# Altium integrated library ST Microcontroller 8-Bit.IntLib: 1326 symbols (part 28 of 31)
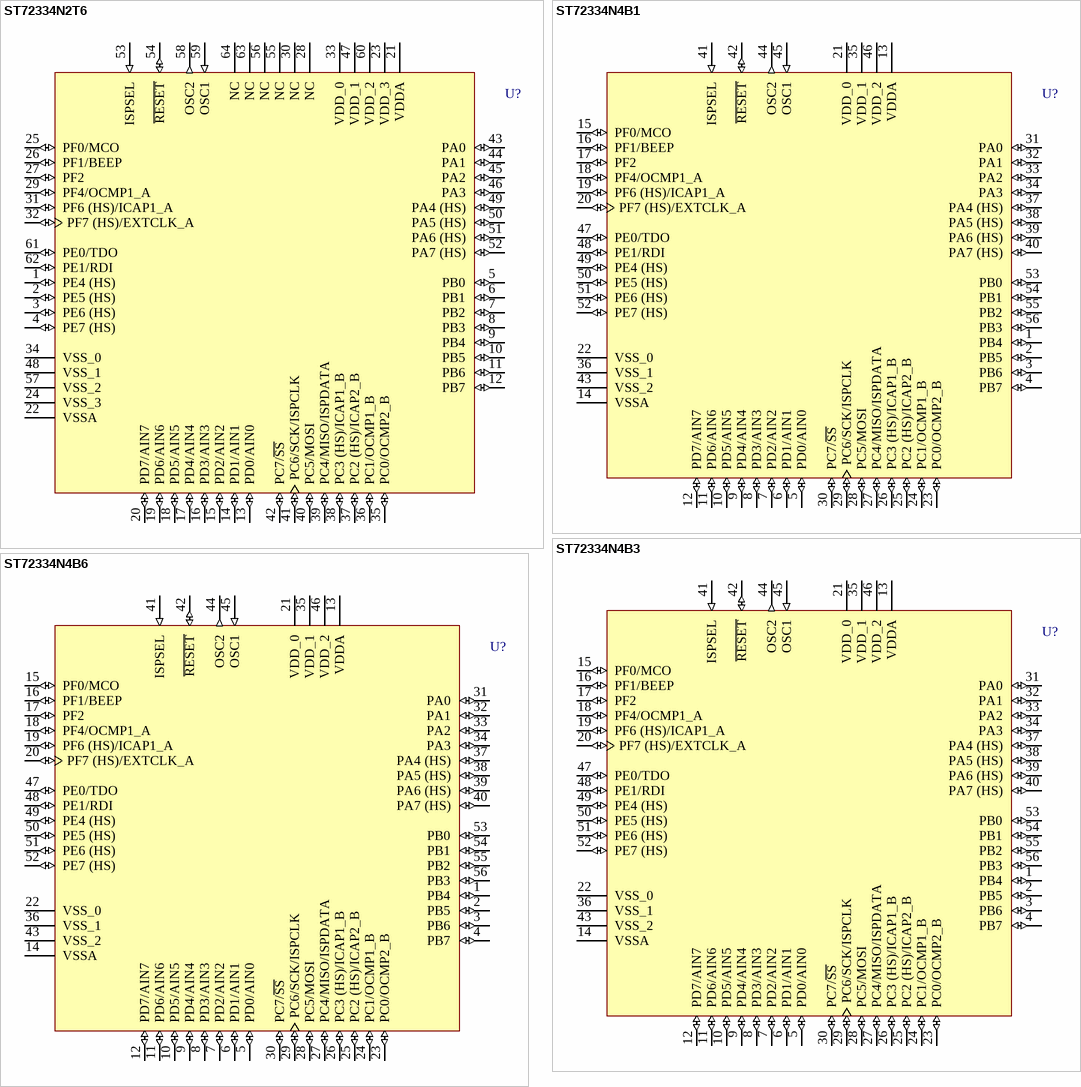
[diagram p194: symbols ST72334N2T6 to ST72334N4B6]

## ST72334N4B1
designator U?
8-Bit MCU with 16k ROM, 512b RAM, 256b EEPROM, ADC, 16-Bit Timers, SPI and SCI Interface, 56-Pin PDIP, Standard; Note: Pins 1-4, 15-17, 31-34 and 53-56 are External Interrupt (EI) pins.; Published: 26-May-2004; DatasheetDocument: rev2.5, Apr-2003; PackageDocument: Jan-2002; PackageReference: PSDIP56; Publisher: Altium Limited
footprint PSDIP56 (DIP, Plastic Shrink; 56 Leads; Row Spacing 15.24 mm; Pitch 1.78 mm)
pins: 1 PB4 (io), 2 PB5 (io), 3 PB6 (io), 4 PB7 (io), 5 PD0/AIN0 (io), 6 PD1/AIN1 (io), 7 PD2/AIN2 (io), 8 PD3/AIN3 (io), 9 PD4/AIN4 (io), 10 PD5/AIN5 (io), 11 PD6/AIN6 (io), 12 PD7/AIN7 (io), 13 VDDA (power), 14 VSSA (power), 15 PF0/MCO (io), 16 PF1/BEEP (io), 17 PF2 (io), 18 PF4/OCMP1_A (io), 19 PF6 (HS)/ICAP1_A (io), 20 PF7 (HS)/EXTCLK_A (io), 21 VDD_0 (power), 22 VSS_0 (power), 23 PC0/OCMP2_B (io), 24 PC1/OCMP1_B (io), 25 PC2 (HS)/ICAP2_B (io), 26 PC3 (HS)/ICAP1_B (io), 27 PC4/MISO/ISPDATA (io), 28 PC5/MOSI (io), 29 PC6/SCK/ISPCLK (io), 30 PC7/~{SS} (io), 31 PA0 (io), 32 PA1 (io), 33 PA2 (io), 34 PA3 (io), 35 VDD_1 (power), 36 VSS_1 (power), 37 PA4 (HS) (io), 38 PA5 (HS) (io), 39 PA6 (HS) (io), 40 PA7 (HS) (io), 41 ISPSEL (in), 42 ~{RESET} (io), 43 VSS_2 (power), 44 OSC2 (out), 45 OSC1 (in), 46 VDD_2 (power), 47 PE0/TDO (io), 48 PE1/RDI (io), 49 PE4 (HS) (io), 50 PE5 (HS) (io), 51 PE6 (HS) (io), 52 PE7 (HS) (io), 53 PB0 (io), 54 PB1 (io), 55 PB2 (io), 56 PB3 (io)

## ST72334N4B3
designator U?
8-Bit MCU with 16k ROM, 512b RAM, 256b EEPROM, ADC, 16-Bit Timers, SPI and SCI Interface, 56-Pin PDIP, Automotive; Note: Pins 1-4, 15-17, 31-34 and 53-56 are External Interrupt (EI) pins.; Published: 26-May-2004; DatasheetDocument: rev2.5, Apr-2003; PackageDocument: Jan-2002; PackageReference: PSDIP56; Publisher: Altium Limited
footprint PSDIP56 (DIP, Plastic Shrink; 56 Leads; Row Spacing 15.24 mm; Pitch 1.78 mm)
pins: 1 PB4 (io), 2 PB5 (io), 3 PB6 (io), 4 PB7 (io), 5 PD0/AIN0 (io), 6 PD1/AIN1 (io), 7 PD2/AIN2 (io), 8 PD3/AIN3 (io), 9 PD4/AIN4 (io), 10 PD5/AIN5 (io), 11 PD6/AIN6 (io), 12 PD7/AIN7 (io), 13 VDDA (power), 14 VSSA (power), 15 PF0/MCO (io), 16 PF1/BEEP (io), 17 PF2 (io), 18 PF4/OCMP1_A (io), 19 PF6 (HS)/ICAP1_A (io), 20 PF7 (HS)/EXTCLK_A (io), 21 VDD_0 (power), 22 VSS_0 (power), 23 PC0/OCMP2_B (io), 24 PC1/OCMP1_B (io), 25 PC2 (HS)/ICAP2_B (io), 26 PC3 (HS)/ICAP1_B (io), 27 PC4/MISO/ISPDATA (io), 28 PC5/MOSI (io), 29 PC6/SCK/ISPCLK (io), 30 PC7/~{SS} (io), 31 PA0 (io), 32 PA1 (io), 33 PA2 (io), 34 PA3 (io), 35 VDD_1 (power), 36 VSS_1 (power), 37 PA4 (HS) (io), 38 PA5 (HS) (io), 39 PA6 (HS) (io), 40 PA7 (HS) (io), 41 ISPSEL (in), 42 ~{RESET} (io), 43 VSS_2 (power), 44 OSC2 (out), 45 OSC1 (in), 46 VDD_2 (power), 47 PE0/TDO (io), 48 PE1/RDI (io), 49 PE4 (HS) (io), 50 PE5 (HS) (io), 51 PE6 (HS) (io), 52 PE7 (HS) (io), 53 PB0 (io), 54 PB1 (io), 55 PB2 (io), 56 PB3 (io)

## ST72334N4B6
designator U?
8-Bit MCU with 16k ROM, 512b RAM, 256b EEPROM, ADC, 16-Bit Timers, SPI and SCI Interface, 56-Pin PDIP, Industrial; Note: Pins 1-4, 15-17, 31-34 and 53-56 are External Interrupt (EI) pins.; Published: 26-May-2004; DatasheetDocument: rev2.5, Apr-2003; PackageDocument: Jan-2002; PackageReference: PSDIP56; Publisher: Altium Limited
footprint PSDIP56 (DIP, Plastic Shrink; 56 Leads; Row Spacing 15.24 mm; Pitch 1.78 mm)
pins: 1 PB4 (io), 2 PB5 (io), 3 PB6 (io), 4 PB7 (io), 5 PD0/AIN0 (io), 6 PD1/AIN1 (io), 7 PD2/AIN2 (io), 8 PD3/AIN3 (io), 9 PD4/AIN4 (io), 10 PD5/AIN5 (io), 11 PD6/AIN6 (io), 12 PD7/AIN7 (io), 13 VDDA (power), 14 VSSA (power), 15 PF0/MCO (io), 16 PF1/BEEP (io), 17 PF2 (io), 18 PF4/OCMP1_A (io), 19 PF6 (HS)/ICAP1_A (io), 20 PF7 (HS)/EXTCLK_A (io), 21 VDD_0 (power), 22 VSS_0 (power), 23 PC0/OCMP2_B (io), 24 PC1/OCMP1_B (io), 25 PC2 (HS)/ICAP2_B (io), 26 PC3 (HS)/ICAP1_B (io), 27 PC4/MISO/ISPDATA (io), 28 PC5/MOSI (io), 29 PC6/SCK/ISPCLK (io), 30 PC7/~{SS} (io), 31 PA0 (io), 32 PA1 (io), 33 PA2 (io), 34 PA3 (io), 35 VDD_1 (power), 36 VSS_1 (power), 37 PA4 (HS) (io), 38 PA5 (HS) (io), 39 PA6 (HS) (io), 40 PA7 (HS) (io), 41 ISPSEL (in), 42 ~{RESET} (io), 43 VSS_2 (power), 44 OSC2 (out), 45 OSC1 (in), 46 VDD_2 (power), 47 PE0/TDO (io), 48 PE1/RDI (io), 49 PE4 (HS) (io), 50 PE5 (HS) (io), 51 PE6 (HS) (io), 52 PE7 (HS) (io), 53 PB0 (io), 54 PB1 (io), 55 PB2 (io), 56 PB3 (io)

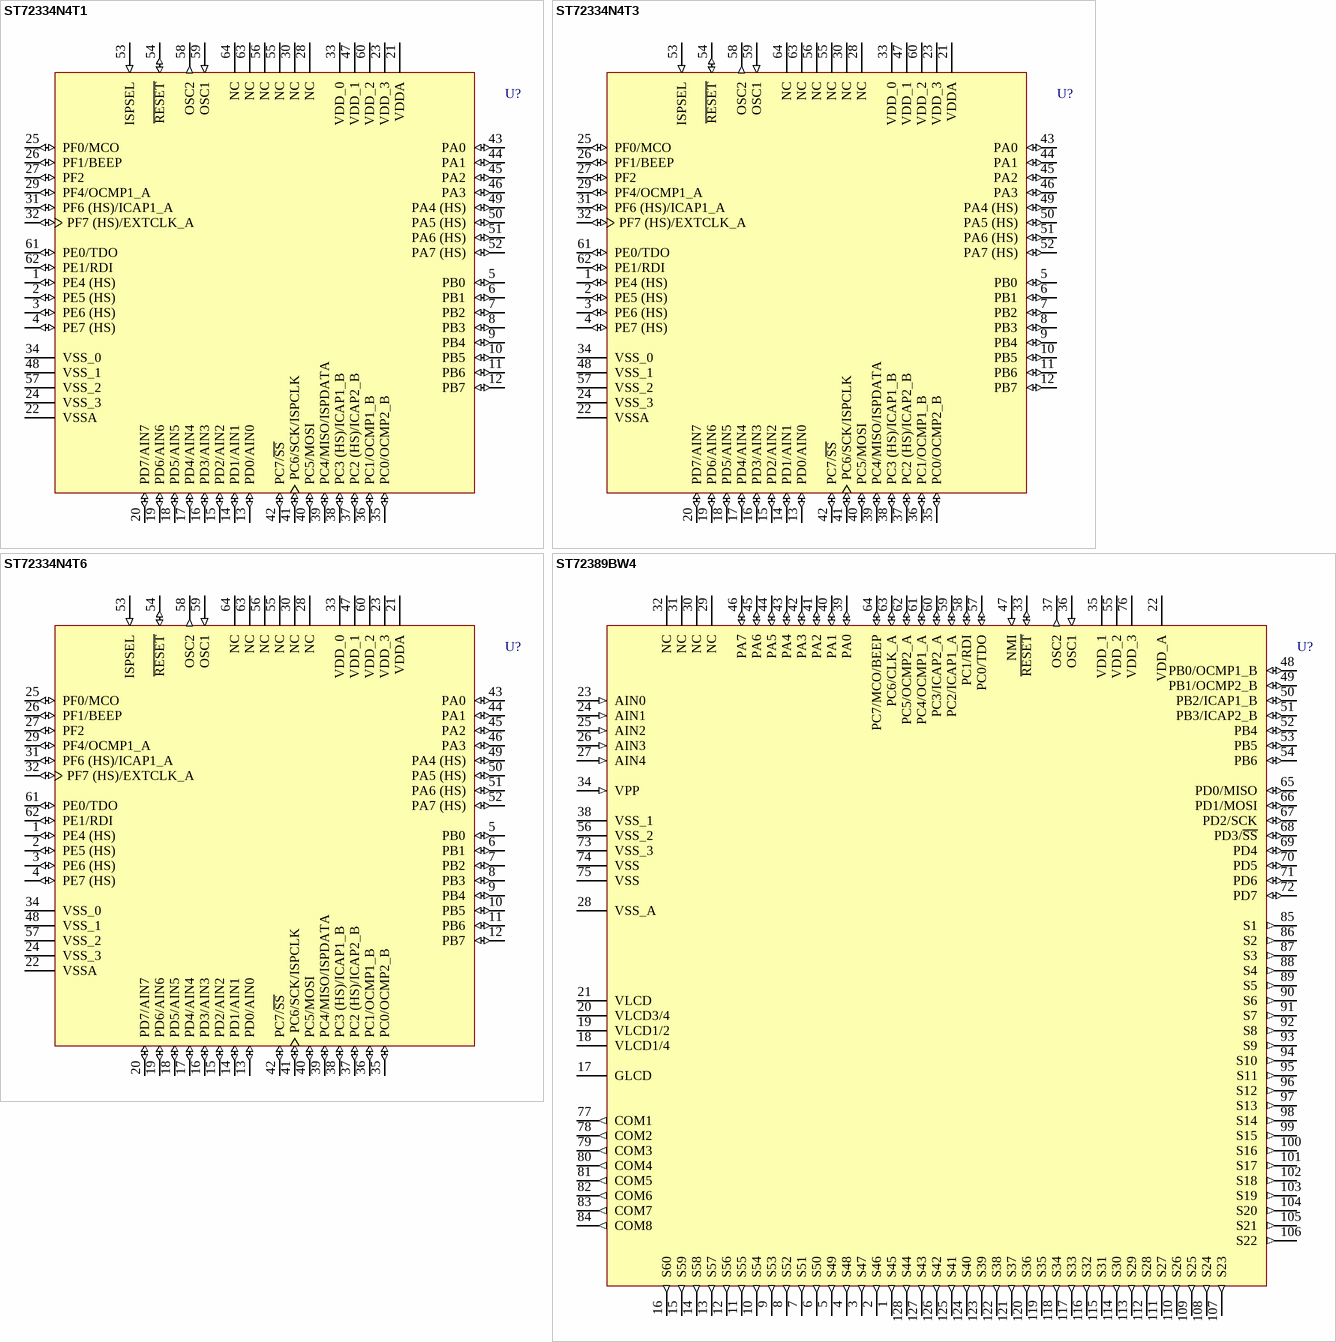
[diagram p144: symbols ST72334N4T1 to ST72389BW4]

## ST72334N4T1
designator U?
8-Bit MCU with 16k ROM, 512b RAM, 256b EEPROM, ADC, 16-Bit Timers, SPI and SCI Interface, 64-Pin TQFP, Standard; PackageDocument: rev2.4, Jan-2002; Note: Pins 5-12, 25-27 and 43-46 are External Interrupt (EI) pins.; Published: 26-May-2004; DatasheetDocument: rev2.5, Apr-2003; PackageReference: TQFP64-0.8; Publisher: Altium Limited
footprint TQFP64-0.8 (QFP, Thin; 64 Leads; Body 14 x 14 mm; Pitch 0.8 mm)
pins: 1 PE4 (HS) (io), 2 PE5 (HS) (io), 3 PE6 (HS) (io), 4 PE7 (HS) (io), 5 PB0 (io), 6 PB1 (io), 7 PB2 (io), 8 PB3 (io), 9 PB4 (io), 10 PB5 (io), 11 PB6 (io), 12 PB7 (io), 13 PD0/AIN0 (io), 14 PD1/AIN1 (io), 15 PD2/AIN2 (io), 16 PD3/AIN3 (io), 17 PD4/AIN4 (io), 18 PD5/AIN5 (io), 19 PD6/AIN6 (io), 20 PD7/AIN7 (io), 21 VDDA (power), 22 VSSA (power), 23 VDD_3 (power), 24 VSS_3 (power), 25 PF0/MCO (io), 26 PF1/BEEP (io), 27 PF2 (io), 28 NC, 29 PF4/OCMP1_A (io), 30 NC, 31 PF6 (HS)/ICAP1_A (io), 32 PF7 (HS)/EXTCLK_A (io), 33 VDD_0 (power), 34 VSS_0 (power), 35 PC0/OCMP2_B (io), 36 PC1/OCMP1_B (io), 37 PC2 (HS)/ICAP2_B (io), 38 PC3 (HS)/ICAP1_B (io), 39 PC4/MISO/ISPDATA (io), 40 PC5/MOSI (io), 41 PC6/SCK/ISPCLK (io), 42 PC7/~{SS} (io), 43 PA0 (io), 44 PA1 (io), 45 PA2 (io), 46 PA3 (io), 47 VDD_1 (power), 48 VSS_1 (power), 49 PA4 (HS) (io), 50 PA5 (HS) (io), 51 PA6 (HS) (io), 52 PA7 (HS) (io), 53 ISPSEL (in), 54 ~{RESET} (io), 55 NC, 56 NC, 57 VSS_2 (power), 58 OSC2 (out), 59 OSC1 (in), 60 VDD_2 (power), 61 PE0/TDO (io), 62 PE1/RDI (io), 63 NC, 64 NC

## ST72334N4T3
designator U?
8-Bit MCU with 16k ROM, 512b RAM, 256b EEPROM, ADC, 16-Bit Timers, SPI and SCI Interface, 64-Pin TQFP, Automotive; PackageDocument: rev2.4, Jan-2002; Note: Pins 5-12, 25-27 and 43-46 are External Interrupt (EI) pins.; Published: 26-May-2004; DatasheetDocument: rev2.5, Apr-2003; PackageReference: TQFP64-0.8; Publisher: Altium Limited
footprint TQFP64-0.8 (QFP, Thin; 64 Leads; Body 14 x 14 mm; Pitch 0.8 mm)
pins: 1 PE4 (HS) (io), 2 PE5 (HS) (io), 3 PE6 (HS) (io), 4 PE7 (HS) (io), 5 PB0 (io), 6 PB1 (io), 7 PB2 (io), 8 PB3 (io), 9 PB4 (io), 10 PB5 (io), 11 PB6 (io), 12 PB7 (io), 13 PD0/AIN0 (io), 14 PD1/AIN1 (io), 15 PD2/AIN2 (io), 16 PD3/AIN3 (io), 17 PD4/AIN4 (io), 18 PD5/AIN5 (io), 19 PD6/AIN6 (io), 20 PD7/AIN7 (io), 21 VDDA (power), 22 VSSA (power), 23 VDD_3 (power), 24 VSS_3 (power), 25 PF0/MCO (io), 26 PF1/BEEP (io), 27 PF2 (io), 28 NC, 29 PF4/OCMP1_A (io), 30 NC, 31 PF6 (HS)/ICAP1_A (io), 32 PF7 (HS)/EXTCLK_A (io), 33 VDD_0 (power), 34 VSS_0 (power), 35 PC0/OCMP2_B (io), 36 PC1/OCMP1_B (io), 37 PC2 (HS)/ICAP2_B (io), 38 PC3 (HS)/ICAP1_B (io), 39 PC4/MISO/ISPDATA (io), 40 PC5/MOSI (io), 41 PC6/SCK/ISPCLK (io), 42 PC7/~{SS} (io), 43 PA0 (io), 44 PA1 (io), 45 PA2 (io), 46 PA3 (io), 47 VDD_1 (power), 48 VSS_1 (power), 49 PA4 (HS) (io), 50 PA5 (HS) (io), 51 PA6 (HS) (io), 52 PA7 (HS) (io), 53 ISPSEL (in), 54 ~{RESET} (io), 55 NC, 56 NC, 57 VSS_2 (power), 58 OSC2 (out), 59 OSC1 (in), 60 VDD_2 (power), 61 PE0/TDO (io), 62 PE1/RDI (io), 63 NC, 64 NC

## ST72334N4T6
designator U?
8-Bit MCU with 16k ROM, 512b RAM, 256b EEPROM, ADC, 16-Bit Timers, SPI and SCI Interface, 64-Pin TQFP, Industrial; PackageDocument: rev2.4, Jan-2002; Note: Pins 5-12, 25-27 and 43-46 are External Interrupt (EI) pins.; Published: 26-May-2004; DatasheetDocument: rev2.5, Apr-2003; PackageReference: TQFP64-0.8; Publisher: Altium Limited
footprint TQFP64-0.8 (QFP, Thin; 64 Leads; Body 14 x 14 mm; Pitch 0.8 mm)
pins: 1 PE4 (HS) (io), 2 PE5 (HS) (io), 3 PE6 (HS) (io), 4 PE7 (HS) (io), 5 PB0 (io), 6 PB1 (io), 7 PB2 (io), 8 PB3 (io), 9 PB4 (io), 10 PB5 (io), 11 PB6 (io), 12 PB7 (io), 13 PD0/AIN0 (io), 14 PD1/AIN1 (io), 15 PD2/AIN2 (io), 16 PD3/AIN3 (io), 17 PD4/AIN4 (io), 18 PD5/AIN5 (io), 19 PD6/AIN6 (io), 20 PD7/AIN7 (io), 21 VDDA (power), 22 VSSA (power), 23 VDD_3 (power), 24 VSS_3 (power), 25 PF0/MCO (io), 26 PF1/BEEP (io), 27 PF2 (io), 28 NC, 29 PF4/OCMP1_A (io), 30 NC, 31 PF6 (HS)/ICAP1_A (io), 32 PF7 (HS)/EXTCLK_A (io), 33 VDD_0 (power), 34 VSS_0 (power), 35 PC0/OCMP2_B (io), 36 PC1/OCMP1_B (io), 37 PC2 (HS)/ICAP2_B (io), 38 PC3 (HS)/ICAP1_B (io), 39 PC4/MISO/ISPDATA (io), 40 PC5/MOSI (io), 41 PC6/SCK/ISPCLK (io), 42 PC7/~{SS} (io), 43 PA0 (io), 44 PA1 (io), 45 PA2 (io), 46 PA3 (io), 47 VDD_1 (power), 48 VSS_1 (power), 49 PA4 (HS) (io), 50 PA5 (HS) (io), 51 PA6 (HS) (io), 52 PA7 (HS) (io), 53 ISPSEL (in), 54 ~{RESET} (io), 55 NC, 56 NC, 57 VSS_2 (power), 58 OSC2 (out), 59 OSC1 (in), 60 VDD_2 (power), 61 PE0/TDO (io), 62 PE1/RDI (io), 63 NC, 64 NC

## ST72389BW4
designator U?
8-Bit 16k ROM MCU with Nested Interrupts, 512b RAM, Dot Matrix LCD, ADC, Timers, SPI and SCI Interfaces, 128-Pin PQFP; Note: Pins 39-46, 58-54, 57-68, 71 and 72 are External Interrupt (EI) pins.; Published: 26-May-2004; DatasheetDocument: rev2.7, Jun-2003; PackageDocument: Jun-2003; PackageReference: RQFP128; Publisher: Altium Limited
footprint RQFP128 (QFP, Plastic; 128 Leads; Body 14 x 20 mm; Pitch 0.5 mm)
pins: 1 S45 (out), 2 S46 (out), 3 S47 (out), 4 S48 (out), 5 S49 (out), 6 S50 (out), 7 S51 (out), 8 S52 (out), 9 S53 (out), 10 S54 (out), 11 S55 (out), 12 S56 (out), 13 S57 (out), 14 S58 (out), 15 S59 (out), 16 S60 (out), 17 GLCD (power), 18 VLCD1/4 (power), 19 VLCD1/2 (power), 20 VLCD3/4 (power), 21 VLCD (power), 22 VDD_A (power), 23 AIN0 (in), 24 AIN1 (in), 25 AIN2 (in), 26 AIN3 (in), 27 AIN4 (in), 28 VSS_A (power), 29 NC, 30 NC, 31 NC, 32 NC, 33 ~{RESET} (io), 34 VPP (in), 35 VDD_1 (power), 36 OSC1 (in), 37 OSC2 (out), 38 VSS_1 (power), 39 PA0 (io), 40 PA1 (io), 41 PA2 (io), 42 PA3 (io), 43 PA4 (io), 44 PA5 (io), 45 PA6 (io), 46 PA7 (io), 47 NMI (in), 48 PB0/OCMP1_B (io), 49 PB1/OCMP2_B (io), 50 PB2/ICAP1_B (io), 51 PB3/ICAP2_B (io), 52 PB4 (io), 53 PB5 (io), 54 PB6 (io), 55 VDD_2 (power), 56 VSS_2 (power), 57 PC0/TDO (io), 58 PC1/RDI (io), 59 PC2/ICAP1_A (io), 60 PC3/ICAP2_A (io), 61 PC4/OCMP1_A (io), 62 PC5/OCMP2_A (io), 63 PC6/CLK_A (io), 64 PC7/MCO/BEEP (io), 65 PD0/MISO (io), 66 PD1/MOSI (io), 67 PD2/SCK (io), 68 PD3/~{SS} (io), 69 PD4 (io), 70 PD5 (io), 71 PD6 (io), 72 PD7 (io), 73 VSS_3 (power), 74 VSS (power), 75 VSS (power), 76 VDD_3 (power), 77 COM1 (out), 78 COM2 (out), 79 COM3 (out), 80 COM4 (out), 81 COM5 (out), 82 COM6 (out), 83 COM7 (out), 84 COM8 (out), 85 S1 (out), 86 S2 (out), 87 S3 (out), 88 S4 (out), 89 S5 (out), 90 S6 (out), 91 S7 (out), 92 S8 (out), 93 S9 (out), 94 S10 (out), 95 S11 (out), 96 S12 (out), 97 S13 (out), 98 S14 (out), 99 S15 (out), 100 S16 (out), 101 S17 (out), 102 S18 (out), 103 S19 (out), 104 S20 (out), 105 S21 (out), 106 S22 (out), 107 S23 (out), 108 S24 (out), 109 S25 (out), 110 S26 (out), 111 S27 (out), 112 S28 (out), 113 S29 (out), 114 S30 (out), 115 S31 (out), 116 S32 (out), 117 S33 (out), 118 S34 (out), 119 S35 (out), 120 S36 (out), 121 S37 (out), 122 S38 (out), 123 S39 (out), 124 S40 (out), 125 S41 (out), 126 S42 (out), 127 S43 (out), 128 S44 (out)

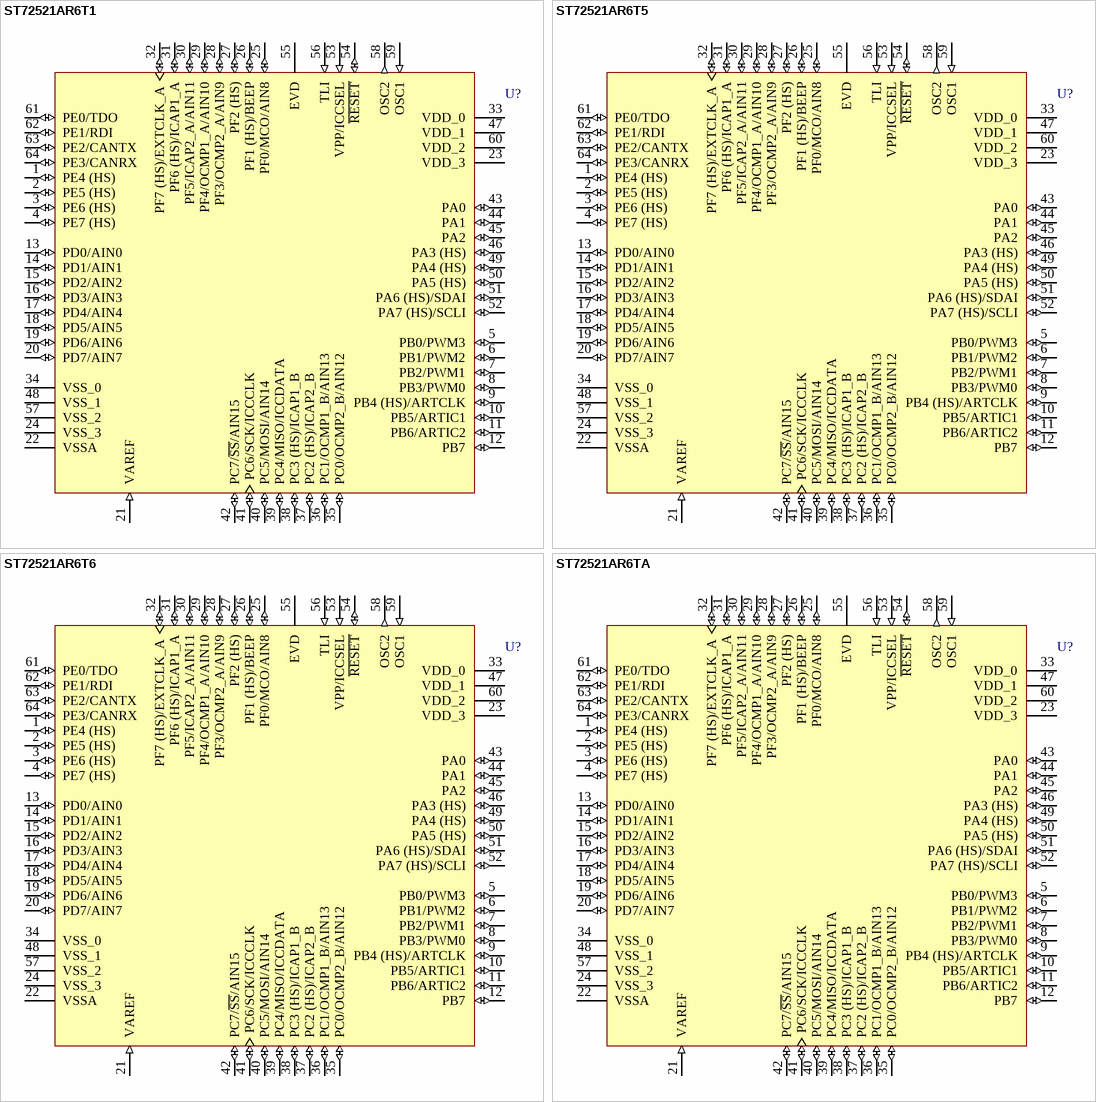
[diagram p145: symbols ST72521AR6T1 to ST72521AR6TA]

## ST72521AR6T1
designator U?
8-Bit 32k ROM MCU with Nested Interrupts, 1024b RAM, 10-Bit ADC, Five Timers, SPI, SCI, I²C and CAN Interfaces, 64-Pin TQFP, Standard; Note: Pins 5-12, 25-27 and 43-46 are External Interrupt (EI) pins.; Published: 26-May-2004; DatasheetDocument: rev1.9, Aug-2003; PackageDocument: Jun-2003; PackageReference: TQFP64; Publisher: Altium Limited; Code_JEDEC: MS-026; Code_IPC: SQFP10X10-64
footprint TQFP64 (QFP, Thin; 64 Leads; Body 10 x 10 mm; Pitch 0.5 mm)
pins: 1 PE4 (HS) (io), 2 PE5 (HS) (io), 3 PE6 (HS) (io), 4 PE7 (HS) (io), 5 PB0/PWM3 (io), 6 PB1/PWM2 (io), 7 PB2/PWM1 (io), 8 PB3/PWM0 (io), 9 PB4 (HS)/ARTCLK (io), 10 PB5/ARTIC1 (io), 11 PB6/ARTIC2 (io), 12 PB7 (io), 13 PD0/AIN0 (io), 14 PD1/AIN1 (io), 15 PD2/AIN2 (io), 16 PD3/AIN3 (io), 17 PD4/AIN4 (io), 18 PD5/AIN5 (io), 19 PD6/AIN6 (io), 20 PD7/AIN7 (io), 21 VAREF (in), 22 VSSA (power), 23 VDD_3 (power), 24 VSS_3 (power), 25 PF0/MCO/AIN8 (io), 26 PF1 (HS)/BEEP (io), 27 PF2 (HS) (io), 28 PF3/OCMP2_A/AIN9 (io), 29 PF4/OCMP1_A/AIN10 (io), 30 PF5/ICAP2_A/AIN11 (io), 31 PF6 (HS)/ICAP1_A (io), 32 PF7 (HS)/EXTCLK_A (io), 33 VDD_0 (power), 34 VSS_0 (power), 35 PC0/OCMP2_B/AIN12 (io), 36 PC1/OCMP1_B/AIN13 (io), 37 PC2 (HS)/ICAP2_B (io), 38 PC3 (HS)/ICAP1_B (io), 39 PC4/MISO/ICCDATA (io), 40 PC5/MOSI/AIN14 (io), 41 PC6/SCK/ICCCLK (io), 42 PC7/~{SS}/AIN15 (io), 43 PA0 (io), 44 PA1 (io), 45 PA2 (io), 46 PA3 (HS) (io), 47 VDD_1 (power), 48 VSS_1 (power), 49 PA4 (HS) (io), 50 PA5 (HS) (io), 51 PA6 (HS)/SDAI (io), 52 PA7 (HS)/SCLI (io), 53 VPP/ICCSEL (in), 54 ~{RESET} (io), 55 EVD, 56 TLI (in), 57 VSS_2 (power), 58 OSC2 (out), 59 OSC1 (in), 60 VDD_2 (power), 61 PE0/TDO (io), 62 PE1/RDI (io), 63 PE2/CANTX (io), 64 PE3/CANRX (io)

## ST72521AR6T5
designator U?
8-Bit 32k ROM MCU with Nested Interrupts, 1024b RAM, 10-Bit ADC, Five Timers, SPI, SCI, I²C and CAN Interfaces, 64-Pin TQFP, Standard; Note: Pins 5-12, 25-27 and 43-46 are External Interrupt (EI) pins.; Published: 26-May-2004; DatasheetDocument: rev1.9, Aug-2003; PackageDocument: Jun-2003; PackageReference: TQFP64; Publisher: Altium Limited; Code_JEDEC: MS-026; Code_IPC: SQFP10X10-64
footprint TQFP64 (QFP, Thin; 64 Leads; Body 10 x 10 mm; Pitch 0.5 mm)
pins: 1 PE4 (HS) (io), 2 PE5 (HS) (io), 3 PE6 (HS) (io), 4 PE7 (HS) (io), 5 PB0/PWM3 (io), 6 PB1/PWM2 (io), 7 PB2/PWM1 (io), 8 PB3/PWM0 (io), 9 PB4 (HS)/ARTCLK (io), 10 PB5/ARTIC1 (io), 11 PB6/ARTIC2 (io), 12 PB7 (io), 13 PD0/AIN0 (io), 14 PD1/AIN1 (io), 15 PD2/AIN2 (io), 16 PD3/AIN3 (io), 17 PD4/AIN4 (io), 18 PD5/AIN5 (io), 19 PD6/AIN6 (io), 20 PD7/AIN7 (io), 21 VAREF (in), 22 VSSA (power), 23 VDD_3 (power), 24 VSS_3 (power), 25 PF0/MCO/AIN8 (io), 26 PF1 (HS)/BEEP (io), 27 PF2 (HS) (io), 28 PF3/OCMP2_A/AIN9 (io), 29 PF4/OCMP1_A/AIN10 (io), 30 PF5/ICAP2_A/AIN11 (io), 31 PF6 (HS)/ICAP1_A (io), 32 PF7 (HS)/EXTCLK_A (io), 33 VDD_0 (power), 34 VSS_0 (power), 35 PC0/OCMP2_B/AIN12 (io), 36 PC1/OCMP1_B/AIN13 (io), 37 PC2 (HS)/ICAP2_B (io), 38 PC3 (HS)/ICAP1_B (io), 39 PC4/MISO/ICCDATA (io), 40 PC5/MOSI/AIN14 (io), 41 PC6/SCK/ICCCLK (io), 42 PC7/~{SS}/AIN15 (io), 43 PA0 (io), 44 PA1 (io), 45 PA2 (io), 46 PA3 (HS) (io), 47 VDD_1 (power), 48 VSS_1 (power), 49 PA4 (HS) (io), 50 PA5 (HS) (io), 51 PA6 (HS)/SDAI (io), 52 PA7 (HS)/SCLI (io), 53 VPP/ICCSEL (in), 54 ~{RESET} (io), 55 EVD, 56 TLI (in), 57 VSS_2 (power), 58 OSC2 (out), 59 OSC1 (in), 60 VDD_2 (power), 61 PE0/TDO (io), 62 PE1/RDI (io), 63 PE2/CANTX (io), 64 PE3/CANRX (io)

## ST72521AR6T6
designator U?
8-Bit 32k ROM MCU with Nested Interrupts, 1024b RAM, 10-Bit ADC, Five Timers, SPI, SCI, I²C and CAN Interfaces, 64-Pin TQFP, Standard; Note: Pins 5-12, 25-27 and 43-46 are External Interrupt (EI) pins.; Published: 26-May-2004; DatasheetDocument: rev1.9, Aug-2003; PackageDocument: Jun-2003; PackageReference: TQFP64; Publisher: Altium Limited; Code_JEDEC: MS-026; Code_IPC: SQFP10X10-64
footprint TQFP64 (QFP, Thin; 64 Leads; Body 10 x 10 mm; Pitch 0.5 mm)
pins: 1 PE4 (HS) (io), 2 PE5 (HS) (io), 3 PE6 (HS) (io), 4 PE7 (HS) (io), 5 PB0/PWM3 (io), 6 PB1/PWM2 (io), 7 PB2/PWM1 (io), 8 PB3/PWM0 (io), 9 PB4 (HS)/ARTCLK (io), 10 PB5/ARTIC1 (io), 11 PB6/ARTIC2 (io), 12 PB7 (io), 13 PD0/AIN0 (io), 14 PD1/AIN1 (io), 15 PD2/AIN2 (io), 16 PD3/AIN3 (io), 17 PD4/AIN4 (io), 18 PD5/AIN5 (io), 19 PD6/AIN6 (io), 20 PD7/AIN7 (io), 21 VAREF (in), 22 VSSA (power), 23 VDD_3 (power), 24 VSS_3 (power), 25 PF0/MCO/AIN8 (io), 26 PF1 (HS)/BEEP (io), 27 PF2 (HS) (io), 28 PF3/OCMP2_A/AIN9 (io), 29 PF4/OCMP1_A/AIN10 (io), 30 PF5/ICAP2_A/AIN11 (io), 31 PF6 (HS)/ICAP1_A (io), 32 PF7 (HS)/EXTCLK_A (io), 33 VDD_0 (power), 34 VSS_0 (power), 35 PC0/OCMP2_B/AIN12 (io), 36 PC1/OCMP1_B/AIN13 (io), 37 PC2 (HS)/ICAP2_B (io), 38 PC3 (HS)/ICAP1_B (io), 39 PC4/MISO/ICCDATA (io), 40 PC5/MOSI/AIN14 (io), 41 PC6/SCK/ICCCLK (io), 42 PC7/~{SS}/AIN15 (io), 43 PA0 (io), 44 PA1 (io), 45 PA2 (io), 46 PA3 (HS) (io), 47 VDD_1 (power), 48 VSS_1 (power), 49 PA4 (HS) (io), 50 PA5 (HS) (io), 51 PA6 (HS)/SDAI (io), 52 PA7 (HS)/SCLI (io), 53 VPP/ICCSEL (in), 54 ~{RESET} (io), 55 EVD, 56 TLI (in), 57 VSS_2 (power), 58 OSC2 (out), 59 OSC1 (in), 60 VDD_2 (power), 61 PE0/TDO (io), 62 PE1/RDI (io), 63 PE2/CANTX (io), 64 PE3/CANRX (io)

## ST72521AR6TA
designator U?
8-Bit 32k ROM MCU with Nested Interrupts, 1024b RAM, 10-Bit ADC, Five Timers, SPI, SCI, I²C and CAN Interfaces, 64-Pin TQFP, Automotive; Note: Pins 5-12, 25-27 and 43-46 are External Interrupt (EI) pins.; Published: 26-May-2004; DatasheetDocument: rev1.9, Aug-2003; PackageDocument: Jun-2003; PackageReference: TQFP64; Publisher: Altium Limited; Code_JEDEC: MS-026; Code_IPC: SQFP10X10-64
footprint TQFP64 (QFP, Thin; 64 Leads; Body 10 x 10 mm; Pitch 0.5 mm)
pins: 1 PE4 (HS) (io), 2 PE5 (HS) (io), 3 PE6 (HS) (io), 4 PE7 (HS) (io), 5 PB0/PWM3 (io), 6 PB1/PWM2 (io), 7 PB2/PWM1 (io), 8 PB3/PWM0 (io), 9 PB4 (HS)/ARTCLK (io), 10 PB5/ARTIC1 (io), 11 PB6/ARTIC2 (io), 12 PB7 (io), 13 PD0/AIN0 (io), 14 PD1/AIN1 (io), 15 PD2/AIN2 (io), 16 PD3/AIN3 (io), 17 PD4/AIN4 (io), 18 PD5/AIN5 (io), 19 PD6/AIN6 (io), 20 PD7/AIN7 (io), 21 VAREF (in), 22 VSSA (power), 23 VDD_3 (power), 24 VSS_3 (power), 25 PF0/MCO/AIN8 (io), 26 PF1 (HS)/BEEP (io), 27 PF2 (HS) (io), 28 PF3/OCMP2_A/AIN9 (io), 29 PF4/OCMP1_A/AIN10 (io), 30 PF5/ICAP2_A/AIN11 (io), 31 PF6 (HS)/ICAP1_A (io), 32 PF7 (HS)/EXTCLK_A (io), 33 VDD_0 (power), 34 VSS_0 (power), 35 PC0/OCMP2_B/AIN12 (io), 36 PC1/OCMP1_B/AIN13 (io), 37 PC2 (HS)/ICAP2_B (io), 38 PC3 (HS)/ICAP1_B (io), 39 PC4/MISO/ICCDATA (io), 40 PC5/MOSI/AIN14 (io), 41 PC6/SCK/ICCCLK (io), 42 PC7/~{SS}/AIN15 (io), 43 PA0 (io), 44 PA1 (io), 45 PA2 (io), 46 PA3 (HS) (io), 47 VDD_1 (power), 48 VSS_1 (power), 49 PA4 (HS) (io), 50 PA5 (HS) (io), 51 PA6 (HS)/SDAI (io), 52 PA7 (HS)/SCLI (io), 53 VPP/ICCSEL (in), 54 ~{RESET} (io), 55 EVD, 56 TLI (in), 57 VSS_2 (power), 58 OSC2 (out), 59 OSC1 (in), 60 VDD_2 (power), 61 PE0/TDO (io), 62 PE1/RDI (io), 63 PE2/CANTX (io), 64 PE3/CANRX (io)

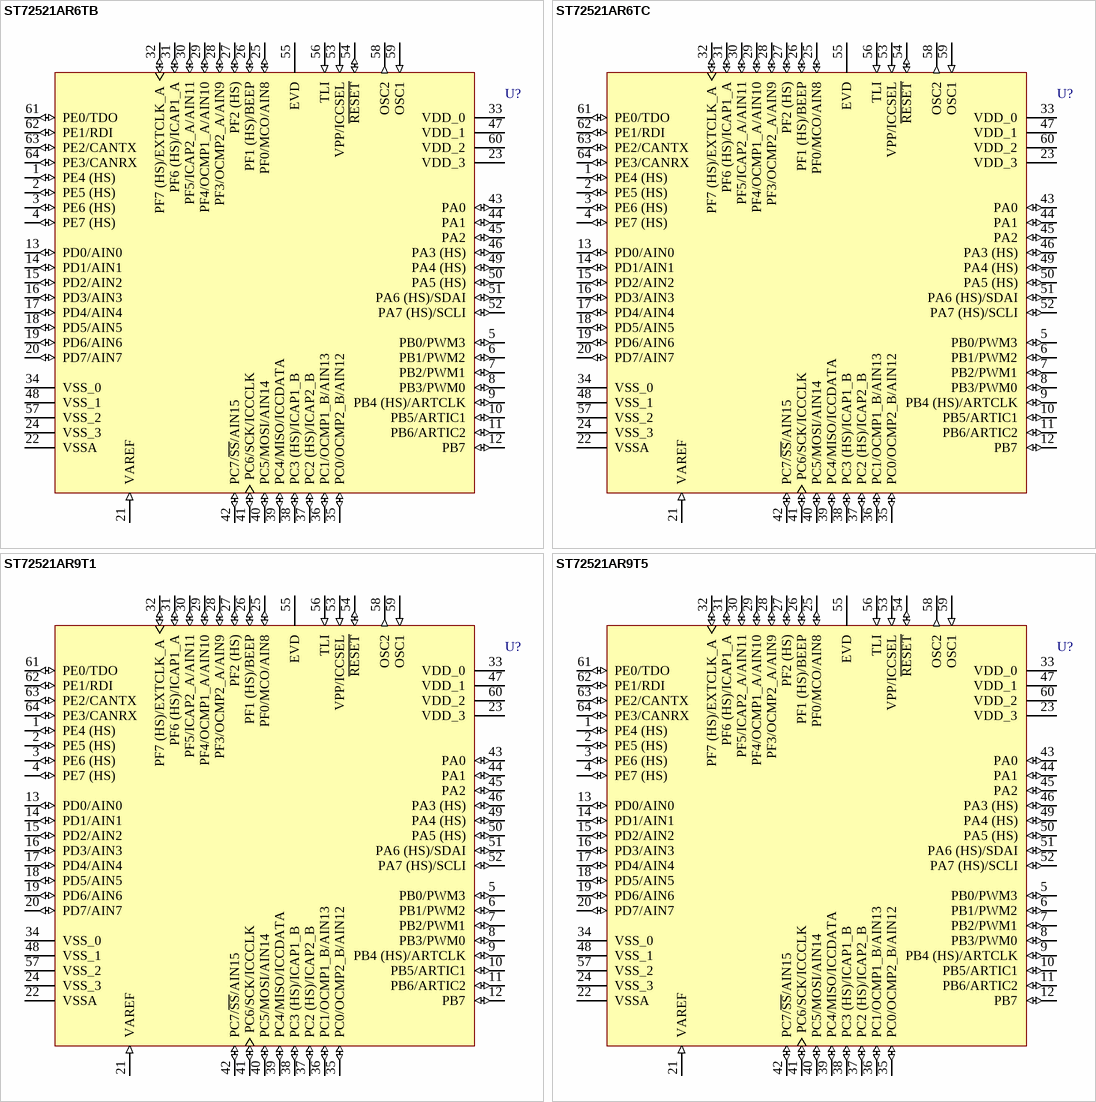
[diagram p146: symbols ST72521AR6TB to ST72521AR9T5]

## ST72521AR6TB
designator U?
8-Bit 32k ROM MCU with Nested Interrupts, 1024b RAM, 10-Bit ADC, Five Timers, SPI, SCI, I²C and CAN Interfaces, 64-Pin TQFP, Automotive; Note: Pins 5-12, 25-27 and 43-46 are External Interrupt (EI) pins.; Published: 26-May-2004; DatasheetDocument: rev1.9, Aug-2003; PackageDocument: Jun-2003; PackageReference: TQFP64; Publisher: Altium Limited; Code_JEDEC: MS-026; Code_IPC: SQFP10X10-64
footprint TQFP64 (QFP, Thin; 64 Leads; Body 10 x 10 mm; Pitch 0.5 mm)
pins: 1 PE4 (HS) (io), 2 PE5 (HS) (io), 3 PE6 (HS) (io), 4 PE7 (HS) (io), 5 PB0/PWM3 (io), 6 PB1/PWM2 (io), 7 PB2/PWM1 (io), 8 PB3/PWM0 (io), 9 PB4 (HS)/ARTCLK (io), 10 PB5/ARTIC1 (io), 11 PB6/ARTIC2 (io), 12 PB7 (io), 13 PD0/AIN0 (io), 14 PD1/AIN1 (io), 15 PD2/AIN2 (io), 16 PD3/AIN3 (io), 17 PD4/AIN4 (io), 18 PD5/AIN5 (io), 19 PD6/AIN6 (io), 20 PD7/AIN7 (io), 21 VAREF (in), 22 VSSA (power), 23 VDD_3 (power), 24 VSS_3 (power), 25 PF0/MCO/AIN8 (io), 26 PF1 (HS)/BEEP (io), 27 PF2 (HS) (io), 28 PF3/OCMP2_A/AIN9 (io), 29 PF4/OCMP1_A/AIN10 (io), 30 PF5/ICAP2_A/AIN11 (io), 31 PF6 (HS)/ICAP1_A (io), 32 PF7 (HS)/EXTCLK_A (io), 33 VDD_0 (power), 34 VSS_0 (power), 35 PC0/OCMP2_B/AIN12 (io), 36 PC1/OCMP1_B/AIN13 (io), 37 PC2 (HS)/ICAP2_B (io), 38 PC3 (HS)/ICAP1_B (io), 39 PC4/MISO/ICCDATA (io), 40 PC5/MOSI/AIN14 (io), 41 PC6/SCK/ICCCLK (io), 42 PC7/~{SS}/AIN15 (io), 43 PA0 (io), 44 PA1 (io), 45 PA2 (io), 46 PA3 (HS) (io), 47 VDD_1 (power), 48 VSS_1 (power), 49 PA4 (HS) (io), 50 PA5 (HS) (io), 51 PA6 (HS)/SDAI (io), 52 PA7 (HS)/SCLI (io), 53 VPP/ICCSEL (in), 54 ~{RESET} (io), 55 EVD, 56 TLI (in), 57 VSS_2 (power), 58 OSC2 (out), 59 OSC1 (in), 60 VDD_2 (power), 61 PE0/TDO (io), 62 PE1/RDI (io), 63 PE2/CANTX (io), 64 PE3/CANRX (io)

## ST72521AR6TC
designator U?
8-Bit 32k ROM MCU with Nested Interrupts, 1024b RAM, 10-Bit ADC, Five Timers, SPI, SCI, I²C and CAN Interfaces, 64-Pin TQFP, Automotive; Note: Pins 5-12, 25-27 and 43-46 are External Interrupt (EI) pins.; Published: 26-May-2004; DatasheetDocument: rev1.9, Aug-2003; PackageDocument: Jun-2003; PackageReference: TQFP64; Publisher: Altium Limited; Code_JEDEC: MS-026; Code_IPC: SQFP10X10-64
footprint TQFP64 (QFP, Thin; 64 Leads; Body 10 x 10 mm; Pitch 0.5 mm)
pins: 1 PE4 (HS) (io), 2 PE5 (HS) (io), 3 PE6 (HS) (io), 4 PE7 (HS) (io), 5 PB0/PWM3 (io), 6 PB1/PWM2 (io), 7 PB2/PWM1 (io), 8 PB3/PWM0 (io), 9 PB4 (HS)/ARTCLK (io), 10 PB5/ARTIC1 (io), 11 PB6/ARTIC2 (io), 12 PB7 (io), 13 PD0/AIN0 (io), 14 PD1/AIN1 (io), 15 PD2/AIN2 (io), 16 PD3/AIN3 (io), 17 PD4/AIN4 (io), 18 PD5/AIN5 (io), 19 PD6/AIN6 (io), 20 PD7/AIN7 (io), 21 VAREF (in), 22 VSSA (power), 23 VDD_3 (power), 24 VSS_3 (power), 25 PF0/MCO/AIN8 (io), 26 PF1 (HS)/BEEP (io), 27 PF2 (HS) (io), 28 PF3/OCMP2_A/AIN9 (io), 29 PF4/OCMP1_A/AIN10 (io), 30 PF5/ICAP2_A/AIN11 (io), 31 PF6 (HS)/ICAP1_A (io), 32 PF7 (HS)/EXTCLK_A (io), 33 VDD_0 (power), 34 VSS_0 (power), 35 PC0/OCMP2_B/AIN12 (io), 36 PC1/OCMP1_B/AIN13 (io), 37 PC2 (HS)/ICAP2_B (io), 38 PC3 (HS)/ICAP1_B (io), 39 PC4/MISO/ICCDATA (io), 40 PC5/MOSI/AIN14 (io), 41 PC6/SCK/ICCCLK (io), 42 PC7/~{SS}/AIN15 (io), 43 PA0 (io), 44 PA1 (io), 45 PA2 (io), 46 PA3 (HS) (io), 47 VDD_1 (power), 48 VSS_1 (power), 49 PA4 (HS) (io), 50 PA5 (HS) (io), 51 PA6 (HS)/SDAI (io), 52 PA7 (HS)/SCLI (io), 53 VPP/ICCSEL (in), 54 ~{RESET} (io), 55 EVD, 56 TLI (in), 57 VSS_2 (power), 58 OSC2 (out), 59 OSC1 (in), 60 VDD_2 (power), 61 PE0/TDO (io), 62 PE1/RDI (io), 63 PE2/CANTX (io), 64 PE3/CANRX (io)

## ST72521AR9T1
designator U?
8-Bit 60k ROM MCU with Nested Interrupts, 2048b RAM, 10-Bit ADC, Five Timers, SPI, SCI, I²C and CAN Interfaces, 64-Pin TQFP, Standard; Note: Pins 5-12, 25-27 and 43-46 are External Interrupt (EI) pins.; Published: 26-May-2004; DatasheetDocument: rev1.9, Aug-2003; PackageDocument: Jun-2003; PackageReference: TQFP64; Publisher: Altium Limited; Code_JEDEC: MS-026; Code_IPC: SQFP10X10-64
footprint TQFP64 (QFP, Thin; 64 Leads; Body 10 x 10 mm; Pitch 0.5 mm)
pins: 1 PE4 (HS) (io), 2 PE5 (HS) (io), 3 PE6 (HS) (io), 4 PE7 (HS) (io), 5 PB0/PWM3 (io), 6 PB1/PWM2 (io), 7 PB2/PWM1 (io), 8 PB3/PWM0 (io), 9 PB4 (HS)/ARTCLK (io), 10 PB5/ARTIC1 (io), 11 PB6/ARTIC2 (io), 12 PB7 (io), 13 PD0/AIN0 (io), 14 PD1/AIN1 (io), 15 PD2/AIN2 (io), 16 PD3/AIN3 (io), 17 PD4/AIN4 (io), 18 PD5/AIN5 (io), 19 PD6/AIN6 (io), 20 PD7/AIN7 (io), 21 VAREF (in), 22 VSSA (power), 23 VDD_3 (power), 24 VSS_3 (power), 25 PF0/MCO/AIN8 (io), 26 PF1 (HS)/BEEP (io), 27 PF2 (HS) (io), 28 PF3/OCMP2_A/AIN9 (io), 29 PF4/OCMP1_A/AIN10 (io), 30 PF5/ICAP2_A/AIN11 (io), 31 PF6 (HS)/ICAP1_A (io), 32 PF7 (HS)/EXTCLK_A (io), 33 VDD_0 (power), 34 VSS_0 (power), 35 PC0/OCMP2_B/AIN12 (io), 36 PC1/OCMP1_B/AIN13 (io), 37 PC2 (HS)/ICAP2_B (io), 38 PC3 (HS)/ICAP1_B (io), 39 PC4/MISO/ICCDATA (io), 40 PC5/MOSI/AIN14 (io), 41 PC6/SCK/ICCCLK (io), 42 PC7/~{SS}/AIN15 (io), 43 PA0 (io), 44 PA1 (io), 45 PA2 (io), 46 PA3 (HS) (io), 47 VDD_1 (power), 48 VSS_1 (power), 49 PA4 (HS) (io), 50 PA5 (HS) (io), 51 PA6 (HS)/SDAI (io), 52 PA7 (HS)/SCLI (io), 53 VPP/ICCSEL (in), 54 ~{RESET} (io), 55 EVD, 56 TLI (in), 57 VSS_2 (power), 58 OSC2 (out), 59 OSC1 (in), 60 VDD_2 (power), 61 PE0/TDO (io), 62 PE1/RDI (io), 63 PE2/CANTX (io), 64 PE3/CANRX (io)

## ST72521AR9T5
designator U?
8-Bit 60k ROM MCU with Nested Interrupts, 2048b RAM, 10-Bit ADC, Five Timers, SPI, SCI, I²C and CAN Interfaces, 64-Pin TQFP, Standard; Note: Pins 5-12, 25-27 and 43-46 are External Interrupt (EI) pins.; Published: 26-May-2004; DatasheetDocument: rev1.9, Aug-2003; PackageDocument: Jun-2003; PackageReference: TQFP64; Publisher: Altium Limited; Code_JEDEC: MS-026; Code_IPC: SQFP10X10-64
footprint TQFP64 (QFP, Thin; 64 Leads; Body 10 x 10 mm; Pitch 0.5 mm)
pins: 1 PE4 (HS) (io), 2 PE5 (HS) (io), 3 PE6 (HS) (io), 4 PE7 (HS) (io), 5 PB0/PWM3 (io), 6 PB1/PWM2 (io), 7 PB2/PWM1 (io), 8 PB3/PWM0 (io), 9 PB4 (HS)/ARTCLK (io), 10 PB5/ARTIC1 (io), 11 PB6/ARTIC2 (io), 12 PB7 (io), 13 PD0/AIN0 (io), 14 PD1/AIN1 (io), 15 PD2/AIN2 (io), 16 PD3/AIN3 (io), 17 PD4/AIN4 (io), 18 PD5/AIN5 (io), 19 PD6/AIN6 (io), 20 PD7/AIN7 (io), 21 VAREF (in), 22 VSSA (power), 23 VDD_3 (power), 24 VSS_3 (power), 25 PF0/MCO/AIN8 (io), 26 PF1 (HS)/BEEP (io), 27 PF2 (HS) (io), 28 PF3/OCMP2_A/AIN9 (io), 29 PF4/OCMP1_A/AIN10 (io), 30 PF5/ICAP2_A/AIN11 (io), 31 PF6 (HS)/ICAP1_A (io), 32 PF7 (HS)/EXTCLK_A (io), 33 VDD_0 (power), 34 VSS_0 (power), 35 PC0/OCMP2_B/AIN12 (io), 36 PC1/OCMP1_B/AIN13 (io), 37 PC2 (HS)/ICAP2_B (io), 38 PC3 (HS)/ICAP1_B (io), 39 PC4/MISO/ICCDATA (io), 40 PC5/MOSI/AIN14 (io), 41 PC6/SCK/ICCCLK (io), 42 PC7/~{SS}/AIN15 (io), 43 PA0 (io), 44 PA1 (io), 45 PA2 (io), 46 PA3 (HS) (io), 47 VDD_1 (power), 48 VSS_1 (power), 49 PA4 (HS) (io), 50 PA5 (HS) (io), 51 PA6 (HS)/SDAI (io), 52 PA7 (HS)/SCLI (io), 53 VPP/ICCSEL (in), 54 ~{RESET} (io), 55 EVD, 56 TLI (in), 57 VSS_2 (power), 58 OSC2 (out), 59 OSC1 (in), 60 VDD_2 (power), 61 PE0/TDO (io), 62 PE1/RDI (io), 63 PE2/CANTX (io), 64 PE3/CANRX (io)

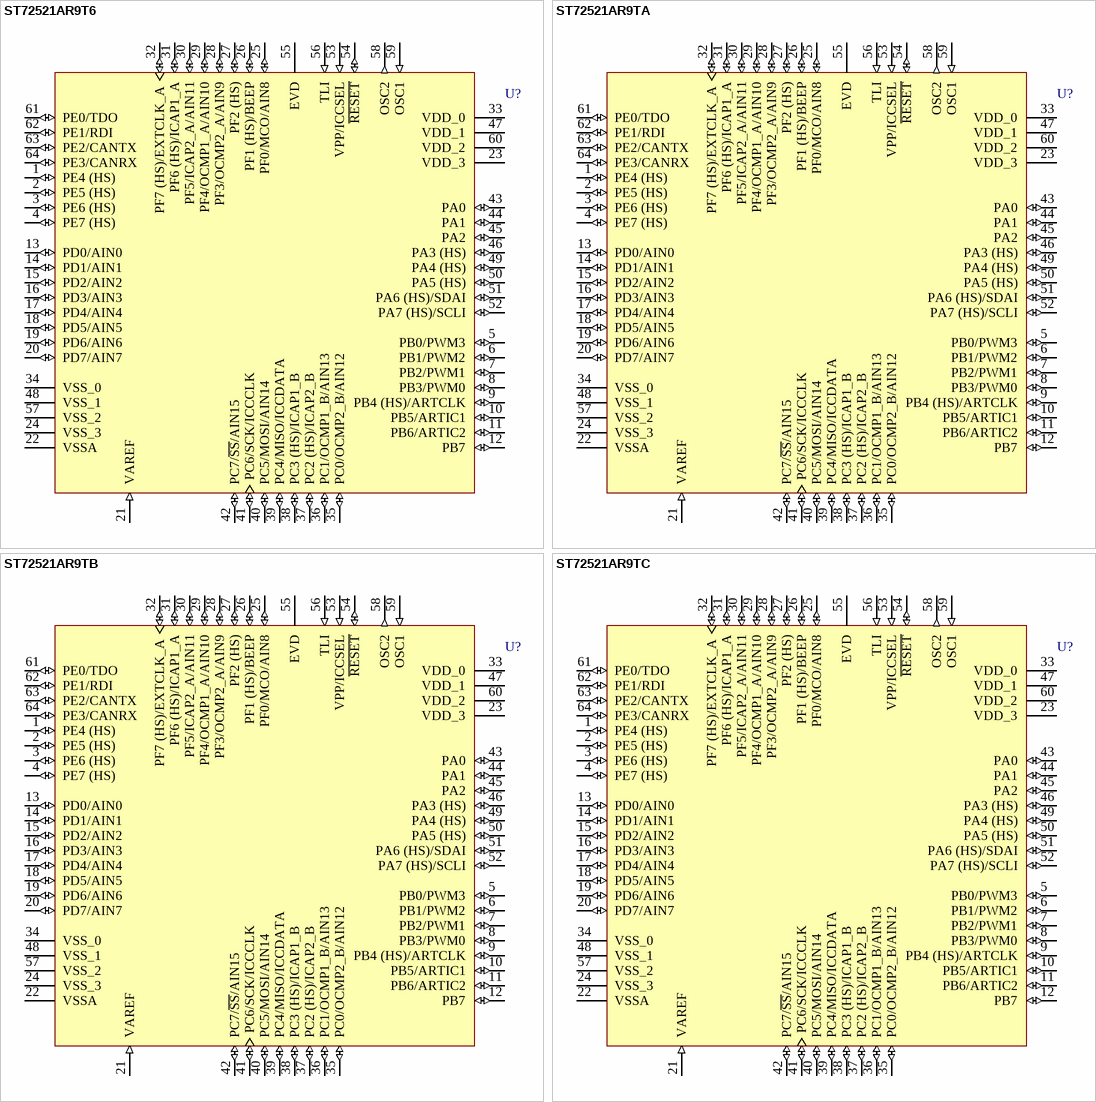
[diagram p147: symbols ST72521AR9T6 to ST72521AR9TC]

## ST72521AR9T6
designator U?
8-Bit 60k ROM MCU with Nested Interrupts, 2048b RAM, 10-Bit ADC, Five Timers, SPI, SCI, I²C and CAN Interfaces, 64-Pin TQFP, Standard; Note: Pins 5-12, 25-27 and 43-46 are External Interrupt (EI) pins.; Published: 26-May-2004; DatasheetDocument: rev1.9, Aug-2003; PackageDocument: Jun-2003; PackageReference: TQFP64; Publisher: Altium Limited; Code_JEDEC: MS-026; Code_IPC: SQFP10X10-64
footprint TQFP64 (QFP, Thin; 64 Leads; Body 10 x 10 mm; Pitch 0.5 mm)
pins: 1 PE4 (HS) (io), 2 PE5 (HS) (io), 3 PE6 (HS) (io), 4 PE7 (HS) (io), 5 PB0/PWM3 (io), 6 PB1/PWM2 (io), 7 PB2/PWM1 (io), 8 PB3/PWM0 (io), 9 PB4 (HS)/ARTCLK (io), 10 PB5/ARTIC1 (io), 11 PB6/ARTIC2 (io), 12 PB7 (io), 13 PD0/AIN0 (io), 14 PD1/AIN1 (io), 15 PD2/AIN2 (io), 16 PD3/AIN3 (io), 17 PD4/AIN4 (io), 18 PD5/AIN5 (io), 19 PD6/AIN6 (io), 20 PD7/AIN7 (io), 21 VAREF (in), 22 VSSA (power), 23 VDD_3 (power), 24 VSS_3 (power), 25 PF0/MCO/AIN8 (io), 26 PF1 (HS)/BEEP (io), 27 PF2 (HS) (io), 28 PF3/OCMP2_A/AIN9 (io), 29 PF4/OCMP1_A/AIN10 (io), 30 PF5/ICAP2_A/AIN11 (io), 31 PF6 (HS)/ICAP1_A (io), 32 PF7 (HS)/EXTCLK_A (io), 33 VDD_0 (power), 34 VSS_0 (power), 35 PC0/OCMP2_B/AIN12 (io), 36 PC1/OCMP1_B/AIN13 (io), 37 PC2 (HS)/ICAP2_B (io), 38 PC3 (HS)/ICAP1_B (io), 39 PC4/MISO/ICCDATA (io), 40 PC5/MOSI/AIN14 (io), 41 PC6/SCK/ICCCLK (io), 42 PC7/~{SS}/AIN15 (io), 43 PA0 (io), 44 PA1 (io), 45 PA2 (io), 46 PA3 (HS) (io), 47 VDD_1 (power), 48 VSS_1 (power), 49 PA4 (HS) (io), 50 PA5 (HS) (io), 51 PA6 (HS)/SDAI (io), 52 PA7 (HS)/SCLI (io), 53 VPP/ICCSEL (in), 54 ~{RESET} (io), 55 EVD, 56 TLI (in), 57 VSS_2 (power), 58 OSC2 (out), 59 OSC1 (in), 60 VDD_2 (power), 61 PE0/TDO (io), 62 PE1/RDI (io), 63 PE2/CANTX (io), 64 PE3/CANRX (io)

## ST72521AR9TA
designator U?
8-Bit 60k ROM MCU with Nested Interrupts, 2048b RAM, 10-Bit ADC, Five Timers, SPI, SCI, I²C and CAN Interfaces, 64-Pin TQFP, Automotive; Note: Pins 5-12, 25-27 and 43-46 are External Interrupt (EI) pins.; Published: 26-May-2004; DatasheetDocument: rev1.9, Aug-2003; PackageDocument: Jun-2003; PackageReference: TQFP64; Publisher: Altium Limited; Code_JEDEC: MS-026; Code_IPC: SQFP10X10-64
footprint TQFP64 (QFP, Thin; 64 Leads; Body 10 x 10 mm; Pitch 0.5 mm)
pins: 1 PE4 (HS) (io), 2 PE5 (HS) (io), 3 PE6 (HS) (io), 4 PE7 (HS) (io), 5 PB0/PWM3 (io), 6 PB1/PWM2 (io), 7 PB2/PWM1 (io), 8 PB3/PWM0 (io), 9 PB4 (HS)/ARTCLK (io), 10 PB5/ARTIC1 (io), 11 PB6/ARTIC2 (io), 12 PB7 (io), 13 PD0/AIN0 (io), 14 PD1/AIN1 (io), 15 PD2/AIN2 (io), 16 PD3/AIN3 (io), 17 PD4/AIN4 (io), 18 PD5/AIN5 (io), 19 PD6/AIN6 (io), 20 PD7/AIN7 (io), 21 VAREF (in), 22 VSSA (power), 23 VDD_3 (power), 24 VSS_3 (power), 25 PF0/MCO/AIN8 (io), 26 PF1 (HS)/BEEP (io), 27 PF2 (HS) (io), 28 PF3/OCMP2_A/AIN9 (io), 29 PF4/OCMP1_A/AIN10 (io), 30 PF5/ICAP2_A/AIN11 (io), 31 PF6 (HS)/ICAP1_A (io), 32 PF7 (HS)/EXTCLK_A (io), 33 VDD_0 (power), 34 VSS_0 (power), 35 PC0/OCMP2_B/AIN12 (io), 36 PC1/OCMP1_B/AIN13 (io), 37 PC2 (HS)/ICAP2_B (io), 38 PC3 (HS)/ICAP1_B (io), 39 PC4/MISO/ICCDATA (io), 40 PC5/MOSI/AIN14 (io), 41 PC6/SCK/ICCCLK (io), 42 PC7/~{SS}/AIN15 (io), 43 PA0 (io), 44 PA1 (io), 45 PA2 (io), 46 PA3 (HS) (io), 47 VDD_1 (power), 48 VSS_1 (power), 49 PA4 (HS) (io), 50 PA5 (HS) (io), 51 PA6 (HS)/SDAI (io), 52 PA7 (HS)/SCLI (io), 53 VPP/ICCSEL (in), 54 ~{RESET} (io), 55 EVD, 56 TLI (in), 57 VSS_2 (power), 58 OSC2 (out), 59 OSC1 (in), 60 VDD_2 (power), 61 PE0/TDO (io), 62 PE1/RDI (io), 63 PE2/CANTX (io), 64 PE3/CANRX (io)

## ST72521AR9TB
designator U?
8-Bit 60k ROM MCU with Nested Interrupts, 2048b RAM, 10-Bit ADC, Five Timers, SPI, SCI, I²C and CAN Interfaces, 64-Pin TQFP, Automotive; Note: Pins 5-12, 25-27 and 43-46 are External Interrupt (EI) pins.; Published: 26-May-2004; DatasheetDocument: rev1.9, Aug-2003; PackageDocument: Jun-2003; PackageReference: TQFP64; Publisher: Altium Limited; Code_JEDEC: MS-026; Code_IPC: SQFP10X10-64
footprint TQFP64 (QFP, Thin; 64 Leads; Body 10 x 10 mm; Pitch 0.5 mm)
pins: 1 PE4 (HS) (io), 2 PE5 (HS) (io), 3 PE6 (HS) (io), 4 PE7 (HS) (io), 5 PB0/PWM3 (io), 6 PB1/PWM2 (io), 7 PB2/PWM1 (io), 8 PB3/PWM0 (io), 9 PB4 (HS)/ARTCLK (io), 10 PB5/ARTIC1 (io), 11 PB6/ARTIC2 (io), 12 PB7 (io), 13 PD0/AIN0 (io), 14 PD1/AIN1 (io), 15 PD2/AIN2 (io), 16 PD3/AIN3 (io), 17 PD4/AIN4 (io), 18 PD5/AIN5 (io), 19 PD6/AIN6 (io), 20 PD7/AIN7 (io), 21 VAREF (in), 22 VSSA (power), 23 VDD_3 (power), 24 VSS_3 (power), 25 PF0/MCO/AIN8 (io), 26 PF1 (HS)/BEEP (io), 27 PF2 (HS) (io), 28 PF3/OCMP2_A/AIN9 (io), 29 PF4/OCMP1_A/AIN10 (io), 30 PF5/ICAP2_A/AIN11 (io), 31 PF6 (HS)/ICAP1_A (io), 32 PF7 (HS)/EXTCLK_A (io), 33 VDD_0 (power), 34 VSS_0 (power), 35 PC0/OCMP2_B/AIN12 (io), 36 PC1/OCMP1_B/AIN13 (io), 37 PC2 (HS)/ICAP2_B (io), 38 PC3 (HS)/ICAP1_B (io), 39 PC4/MISO/ICCDATA (io), 40 PC5/MOSI/AIN14 (io), 41 PC6/SCK/ICCCLK (io), 42 PC7/~{SS}/AIN15 (io), 43 PA0 (io), 44 PA1 (io), 45 PA2 (io), 46 PA3 (HS) (io), 47 VDD_1 (power), 48 VSS_1 (power), 49 PA4 (HS) (io), 50 PA5 (HS) (io), 51 PA6 (HS)/SDAI (io), 52 PA7 (HS)/SCLI (io), 53 VPP/ICCSEL (in), 54 ~{RESET} (io), 55 EVD, 56 TLI (in), 57 VSS_2 (power), 58 OSC2 (out), 59 OSC1 (in), 60 VDD_2 (power), 61 PE0/TDO (io), 62 PE1/RDI (io), 63 PE2/CANTX (io), 64 PE3/CANRX (io)

## ST72521AR9TC
designator U?
8-Bit 60k ROM MCU with Nested Interrupts, 2048b RAM, 10-Bit ADC, Five Timers, SPI, SCI, I²C and CAN Interfaces, 64-Pin TQFP, Automotive; Note: Pins 5-12, 25-27 and 43-46 are External Interrupt (EI) pins.; Published: 26-May-2004; DatasheetDocument: rev1.9, Aug-2003; PackageDocument: Jun-2003; PackageReference: TQFP64; Publisher: Altium Limited; Code_JEDEC: MS-026; Code_IPC: SQFP10X10-64
footprint TQFP64 (QFP, Thin; 64 Leads; Body 10 x 10 mm; Pitch 0.5 mm)
pins: 1 PE4 (HS) (io), 2 PE5 (HS) (io), 3 PE6 (HS) (io), 4 PE7 (HS) (io), 5 PB0/PWM3 (io), 6 PB1/PWM2 (io), 7 PB2/PWM1 (io), 8 PB3/PWM0 (io), 9 PB4 (HS)/ARTCLK (io), 10 PB5/ARTIC1 (io), 11 PB6/ARTIC2 (io), 12 PB7 (io), 13 PD0/AIN0 (io), 14 PD1/AIN1 (io), 15 PD2/AIN2 (io), 16 PD3/AIN3 (io), 17 PD4/AIN4 (io), 18 PD5/AIN5 (io), 19 PD6/AIN6 (io), 20 PD7/AIN7 (io), 21 VAREF (in), 22 VSSA (power), 23 VDD_3 (power), 24 VSS_3 (power), 25 PF0/MCO/AIN8 (io), 26 PF1 (HS)/BEEP (io), 27 PF2 (HS) (io), 28 PF3/OCMP2_A/AIN9 (io), 29 PF4/OCMP1_A/AIN10 (io), 30 PF5/ICAP2_A/AIN11 (io), 31 PF6 (HS)/ICAP1_A (io), 32 PF7 (HS)/EXTCLK_A (io), 33 VDD_0 (power), 34 VSS_0 (power), 35 PC0/OCMP2_B/AIN12 (io), 36 PC1/OCMP1_B/AIN13 (io), 37 PC2 (HS)/ICAP2_B (io), 38 PC3 (HS)/ICAP1_B (io), 39 PC4/MISO/ICCDATA (io), 40 PC5/MOSI/AIN14 (io), 41 PC6/SCK/ICCCLK (io), 42 PC7/~{SS}/AIN15 (io), 43 PA0 (io), 44 PA1 (io), 45 PA2 (io), 46 PA3 (HS) (io), 47 VDD_1 (power), 48 VSS_1 (power), 49 PA4 (HS) (io), 50 PA5 (HS) (io), 51 PA6 (HS)/SDAI (io), 52 PA7 (HS)/SCLI (io), 53 VPP/ICCSEL (in), 54 ~{RESET} (io), 55 EVD, 56 TLI (in), 57 VSS_2 (power), 58 OSC2 (out), 59 OSC1 (in), 60 VDD_2 (power), 61 PE0/TDO (io), 62 PE1/RDI (io), 63 PE2/CANTX (io), 64 PE3/CANRX (io)

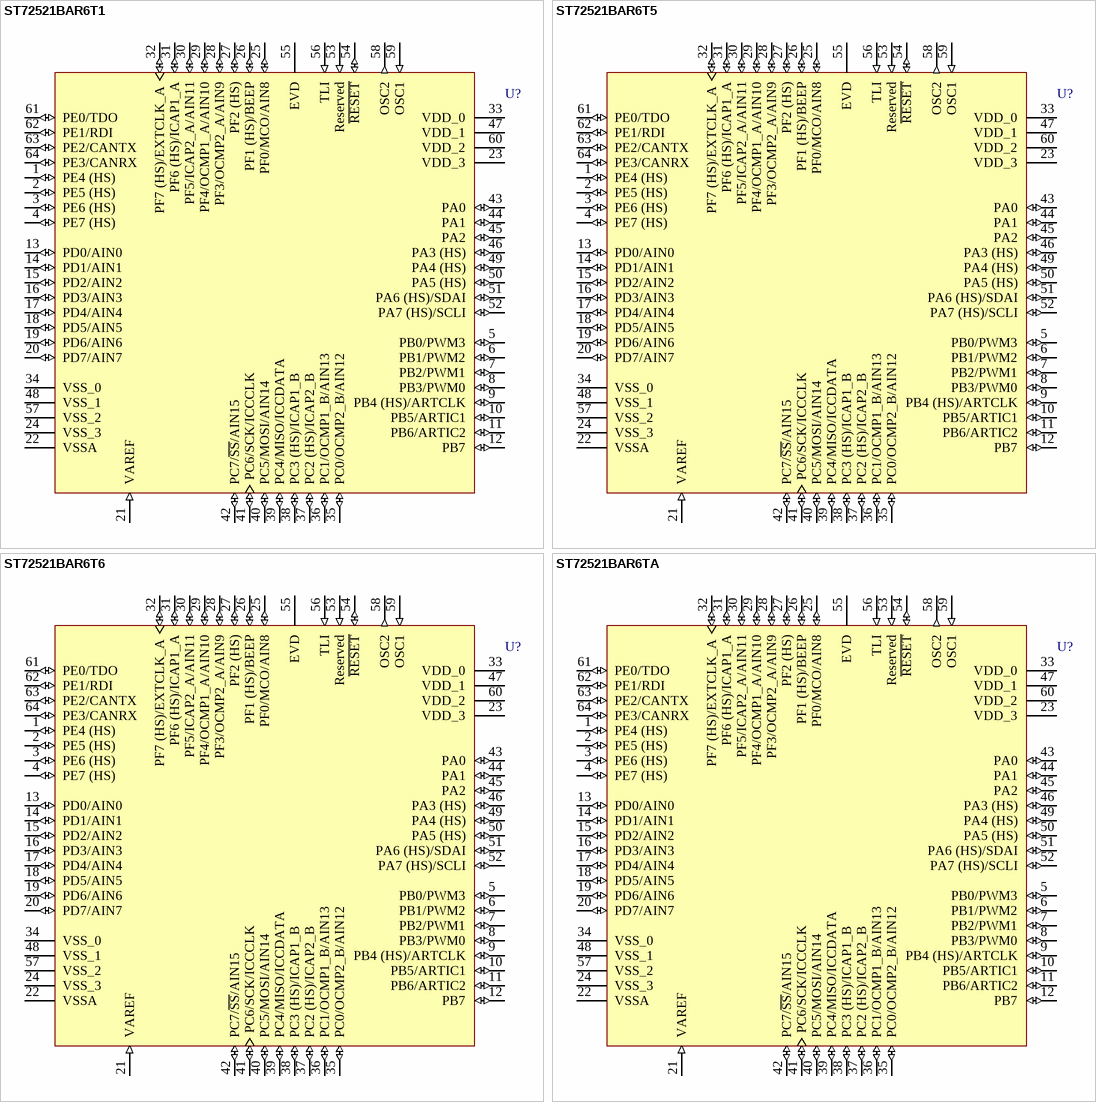
[diagram p148: symbols ST72521BAR6T1 to ST72521BAR6TA]

## ST72521BAR6T1
designator U?
8-Bit MCU with 32k ROM, 1024b RAM, Five Timers, SPI, SCI, I²C and CAN Interfaces, 64-Pin TQFP, Standard; Note: Pins 5-12, 25-27 and 43-46 are External Interrupt (EI) pins.; Note: Pin # 53 (Reserved) must be tied low.; Published: 26-May-2004; DatasheetDocument: rev1.1, Oct-2003; PackageDocument: Jun-2003; PackageReference: TQFP64; Publisher: Altium Limited; Code_JEDEC: MS-026; Code_IPC: SQFP10X10-64
footprint TQFP64 (QFP, Thin; 64 Leads; Body 10 x 10 mm; Pitch 0.5 mm)
pins: 1 PE4 (HS) (io), 2 PE5 (HS) (io), 3 PE6 (HS) (io), 4 PE7 (HS) (io), 5 PB0/PWM3 (io), 6 PB1/PWM2 (io), 7 PB2/PWM1 (io), 8 PB3/PWM0 (io), 9 PB4 (HS)/ARTCLK (io), 10 PB5/ARTIC1 (io), 11 PB6/ARTIC2 (io), 12 PB7 (io), 13 PD0/AIN0 (io), 14 PD1/AIN1 (io), 15 PD2/AIN2 (io), 16 PD3/AIN3 (io), 17 PD4/AIN4 (io), 18 PD5/AIN5 (io), 19 PD6/AIN6 (io), 20 PD7/AIN7 (io), 21 VAREF (in), 22 VSSA (power), 23 VDD_3 (power), 24 VSS_3 (power), 25 PF0/MCO/AIN8 (io), 26 PF1 (HS)/BEEP (io), 27 PF2 (HS) (io), 28 PF3/OCMP2_A/AIN9 (io), 29 PF4/OCMP1_A/AIN10 (io), 30 PF5/ICAP2_A/AIN11 (io), 31 PF6 (HS)/ICAP1_A (io), 32 PF7 (HS)/EXTCLK_A (io), 33 VDD_0 (power), 34 VSS_0 (power), 35 PC0/OCMP2_B/AIN12 (io), 36 PC1/OCMP1_B/AIN13 (io), 37 PC2 (HS)/ICAP2_B (io), 38 PC3 (HS)/ICAP1_B (io), 39 PC4/MISO/ICCDATA (io), 40 PC5/MOSI/AIN14 (io), 41 PC6/SCK/ICCCLK (io), 42 PC7/~{SS}/AIN15 (io), 43 PA0 (io), 44 PA1 (io), 45 PA2 (io), 46 PA3 (HS) (io), 47 VDD_1 (power), 48 VSS_1 (power), 49 PA4 (HS) (io), 50 PA5 (HS) (io), 51 PA6 (HS)/SDAI (io), 52 PA7 (HS)/SCLI (io), 53 Reserved (in), 54 ~{RESET} (io), 55 EVD, 56 TLI (in), 57 VSS_2 (power), 58 OSC2 (out), 59 OSC1 (in), 60 VDD_2 (power), 61 PE0/TDO (io), 62 PE1/RDI (io), 63 PE2/CANTX (io), 64 PE3/CANRX (io)

## ST72521BAR6T5
designator U?
8-Bit MCU with 32k ROM, 1024b RAM, Five Timers, SPI, SCI, I²C and CAN Interfaces, 64-Pin TQFP, Standard; Note: Pins 5-12, 25-27 and 43-46 are External Interrupt (EI) pins.; Note: Pin # 53 (Reserved) must be tied low.; Published: 26-May-2004; DatasheetDocument: rev1.1, Oct-2003; PackageDocument: Jun-2003; PackageReference: TQFP64; Publisher: Altium Limited; Code_JEDEC: MS-026; Code_IPC: SQFP10X10-64
footprint TQFP64 (QFP, Thin; 64 Leads; Body 10 x 10 mm; Pitch 0.5 mm)
pins: 1 PE4 (HS) (io), 2 PE5 (HS) (io), 3 PE6 (HS) (io), 4 PE7 (HS) (io), 5 PB0/PWM3 (io), 6 PB1/PWM2 (io), 7 PB2/PWM1 (io), 8 PB3/PWM0 (io), 9 PB4 (HS)/ARTCLK (io), 10 PB5/ARTIC1 (io), 11 PB6/ARTIC2 (io), 12 PB7 (io), 13 PD0/AIN0 (io), 14 PD1/AIN1 (io), 15 PD2/AIN2 (io), 16 PD3/AIN3 (io), 17 PD4/AIN4 (io), 18 PD5/AIN5 (io), 19 PD6/AIN6 (io), 20 PD7/AIN7 (io), 21 VAREF (in), 22 VSSA (power), 23 VDD_3 (power), 24 VSS_3 (power), 25 PF0/MCO/AIN8 (io), 26 PF1 (HS)/BEEP (io), 27 PF2 (HS) (io), 28 PF3/OCMP2_A/AIN9 (io), 29 PF4/OCMP1_A/AIN10 (io), 30 PF5/ICAP2_A/AIN11 (io), 31 PF6 (HS)/ICAP1_A (io), 32 PF7 (HS)/EXTCLK_A (io), 33 VDD_0 (power), 34 VSS_0 (power), 35 PC0/OCMP2_B/AIN12 (io), 36 PC1/OCMP1_B/AIN13 (io), 37 PC2 (HS)/ICAP2_B (io), 38 PC3 (HS)/ICAP1_B (io), 39 PC4/MISO/ICCDATA (io), 40 PC5/MOSI/AIN14 (io), 41 PC6/SCK/ICCCLK (io), 42 PC7/~{SS}/AIN15 (io), 43 PA0 (io), 44 PA1 (io), 45 PA2 (io), 46 PA3 (HS) (io), 47 VDD_1 (power), 48 VSS_1 (power), 49 PA4 (HS) (io), 50 PA5 (HS) (io), 51 PA6 (HS)/SDAI (io), 52 PA7 (HS)/SCLI (io), 53 Reserved (in), 54 ~{RESET} (io), 55 EVD, 56 TLI (in), 57 VSS_2 (power), 58 OSC2 (out), 59 OSC1 (in), 60 VDD_2 (power), 61 PE0/TDO (io), 62 PE1/RDI (io), 63 PE2/CANTX (io), 64 PE3/CANRX (io)

## ST72521BAR6T6
designator U?
8-Bit MCU with 32k ROM, 1024b RAM, Five Timers, SPI, SCI, I²C and CAN Interfaces, 64-Pin TQFP, Standard; Note: Pins 5-12, 25-27 and 43-46 are External Interrupt (EI) pins.; Note: Pin # 53 (Reserved) must be tied low.; Published: 26-May-2004; DatasheetDocument: rev1.1, Oct-2003; PackageDocument: Jun-2003; PackageReference: TQFP64; Publisher: Altium Limited; Code_JEDEC: MS-026; Code_IPC: SQFP10X10-64
footprint TQFP64 (QFP, Thin; 64 Leads; Body 10 x 10 mm; Pitch 0.5 mm)
pins: 1 PE4 (HS) (io), 2 PE5 (HS) (io), 3 PE6 (HS) (io), 4 PE7 (HS) (io), 5 PB0/PWM3 (io), 6 PB1/PWM2 (io), 7 PB2/PWM1 (io), 8 PB3/PWM0 (io), 9 PB4 (HS)/ARTCLK (io), 10 PB5/ARTIC1 (io), 11 PB6/ARTIC2 (io), 12 PB7 (io), 13 PD0/AIN0 (io), 14 PD1/AIN1 (io), 15 PD2/AIN2 (io), 16 PD3/AIN3 (io), 17 PD4/AIN4 (io), 18 PD5/AIN5 (io), 19 PD6/AIN6 (io), 20 PD7/AIN7 (io), 21 VAREF (in), 22 VSSA (power), 23 VDD_3 (power), 24 VSS_3 (power), 25 PF0/MCO/AIN8 (io), 26 PF1 (HS)/BEEP (io), 27 PF2 (HS) (io), 28 PF3/OCMP2_A/AIN9 (io), 29 PF4/OCMP1_A/AIN10 (io), 30 PF5/ICAP2_A/AIN11 (io), 31 PF6 (HS)/ICAP1_A (io), 32 PF7 (HS)/EXTCLK_A (io), 33 VDD_0 (power), 34 VSS_0 (power), 35 PC0/OCMP2_B/AIN12 (io), 36 PC1/OCMP1_B/AIN13 (io), 37 PC2 (HS)/ICAP2_B (io), 38 PC3 (HS)/ICAP1_B (io), 39 PC4/MISO/ICCDATA (io), 40 PC5/MOSI/AIN14 (io), 41 PC6/SCK/ICCCLK (io), 42 PC7/~{SS}/AIN15 (io), 43 PA0 (io), 44 PA1 (io), 45 PA2 (io), 46 PA3 (HS) (io), 47 VDD_1 (power), 48 VSS_1 (power), 49 PA4 (HS) (io), 50 PA5 (HS) (io), 51 PA6 (HS)/SDAI (io), 52 PA7 (HS)/SCLI (io), 53 Reserved (in), 54 ~{RESET} (io), 55 EVD, 56 TLI (in), 57 VSS_2 (power), 58 OSC2 (out), 59 OSC1 (in), 60 VDD_2 (power), 61 PE0/TDO (io), 62 PE1/RDI (io), 63 PE2/CANTX (io), 64 PE3/CANRX (io)

## ST72521BAR6TA
designator U?
8-Bit MCU with 32k ROM, 1024b RAM, Five Timers, SPI, SCI, I²C and CAN Interfaces, 64-Pin TQFP, Automotive; Note: Pins 5-12, 25-27 and 43-46 are External Interrupt (EI) pins.; Note: Pin # 53 (Reserved) must be tied low.; Published: 26-May-2004; DatasheetDocument: rev1.1, Oct-2003; PackageDocument: Jun-2003; PackageReference: TQFP64; Publisher: Altium Limited; Code_JEDEC: MS-026; Code_IPC: SQFP10X10-64
footprint TQFP64 (QFP, Thin; 64 Leads; Body 10 x 10 mm; Pitch 0.5 mm)
pins: 1 PE4 (HS) (io), 2 PE5 (HS) (io), 3 PE6 (HS) (io), 4 PE7 (HS) (io), 5 PB0/PWM3 (io), 6 PB1/PWM2 (io), 7 PB2/PWM1 (io), 8 PB3/PWM0 (io), 9 PB4 (HS)/ARTCLK (io), 10 PB5/ARTIC1 (io), 11 PB6/ARTIC2 (io), 12 PB7 (io), 13 PD0/AIN0 (io), 14 PD1/AIN1 (io), 15 PD2/AIN2 (io), 16 PD3/AIN3 (io), 17 PD4/AIN4 (io), 18 PD5/AIN5 (io), 19 PD6/AIN6 (io), 20 PD7/AIN7 (io), 21 VAREF (in), 22 VSSA (power), 23 VDD_3 (power), 24 VSS_3 (power), 25 PF0/MCO/AIN8 (io), 26 PF1 (HS)/BEEP (io), 27 PF2 (HS) (io), 28 PF3/OCMP2_A/AIN9 (io), 29 PF4/OCMP1_A/AIN10 (io), 30 PF5/ICAP2_A/AIN11 (io), 31 PF6 (HS)/ICAP1_A (io), 32 PF7 (HS)/EXTCLK_A (io), 33 VDD_0 (power), 34 VSS_0 (power), 35 PC0/OCMP2_B/AIN12 (io), 36 PC1/OCMP1_B/AIN13 (io), 37 PC2 (HS)/ICAP2_B (io), 38 PC3 (HS)/ICAP1_B (io), 39 PC4/MISO/ICCDATA (io), 40 PC5/MOSI/AIN14 (io), 41 PC6/SCK/ICCCLK (io), 42 PC7/~{SS}/AIN15 (io), 43 PA0 (io), 44 PA1 (io), 45 PA2 (io), 46 PA3 (HS) (io), 47 VDD_1 (power), 48 VSS_1 (power), 49 PA4 (HS) (io), 50 PA5 (HS) (io), 51 PA6 (HS)/SDAI (io), 52 PA7 (HS)/SCLI (io), 53 Reserved (in), 54 ~{RESET} (io), 55 EVD, 56 TLI (in), 57 VSS_2 (power), 58 OSC2 (out), 59 OSC1 (in), 60 VDD_2 (power), 61 PE0/TDO (io), 62 PE1/RDI (io), 63 PE2/CANTX (io), 64 PE3/CANRX (io)

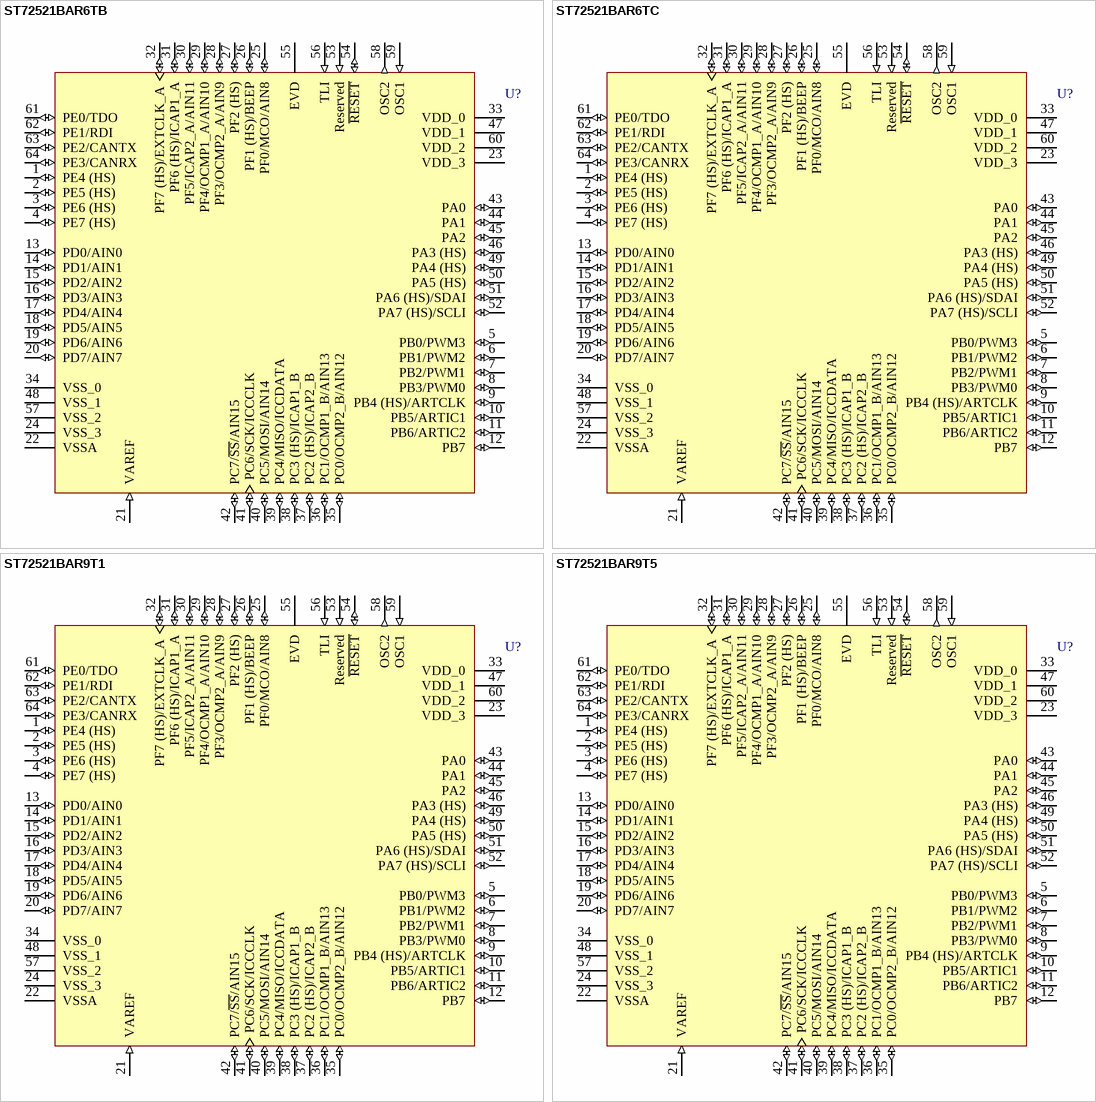
[diagram p149: symbols ST72521BAR6TB to ST72521BAR9T5]

## ST72521BAR6TB
designator U?
8-Bit MCU with 32k ROM, 1024b RAM, Five Timers, SPI, SCI, I²C and CAN Interfaces, 64-Pin TQFP, Automotive; Note: Pins 5-12, 25-27 and 43-46 are External Interrupt (EI) pins.; Note: Pin # 53 (Reserved) must be tied low.; Published: 26-May-2004; DatasheetDocument: rev1.1, Oct-2003; PackageDocument: Jun-2003; PackageReference: TQFP64; Publisher: Altium Limited; Code_JEDEC: MS-026; Code_IPC: SQFP10X10-64
footprint TQFP64 (QFP, Thin; 64 Leads; Body 10 x 10 mm; Pitch 0.5 mm)
pins: 1 PE4 (HS) (io), 2 PE5 (HS) (io), 3 PE6 (HS) (io), 4 PE7 (HS) (io), 5 PB0/PWM3 (io), 6 PB1/PWM2 (io), 7 PB2/PWM1 (io), 8 PB3/PWM0 (io), 9 PB4 (HS)/ARTCLK (io), 10 PB5/ARTIC1 (io), 11 PB6/ARTIC2 (io), 12 PB7 (io), 13 PD0/AIN0 (io), 14 PD1/AIN1 (io), 15 PD2/AIN2 (io), 16 PD3/AIN3 (io), 17 PD4/AIN4 (io), 18 PD5/AIN5 (io), 19 PD6/AIN6 (io), 20 PD7/AIN7 (io), 21 VAREF (in), 22 VSSA (power), 23 VDD_3 (power), 24 VSS_3 (power), 25 PF0/MCO/AIN8 (io), 26 PF1 (HS)/BEEP (io), 27 PF2 (HS) (io), 28 PF3/OCMP2_A/AIN9 (io), 29 PF4/OCMP1_A/AIN10 (io), 30 PF5/ICAP2_A/AIN11 (io), 31 PF6 (HS)/ICAP1_A (io), 32 PF7 (HS)/EXTCLK_A (io), 33 VDD_0 (power), 34 VSS_0 (power), 35 PC0/OCMP2_B/AIN12 (io), 36 PC1/OCMP1_B/AIN13 (io), 37 PC2 (HS)/ICAP2_B (io), 38 PC3 (HS)/ICAP1_B (io), 39 PC4/MISO/ICCDATA (io), 40 PC5/MOSI/AIN14 (io), 41 PC6/SCK/ICCCLK (io), 42 PC7/~{SS}/AIN15 (io), 43 PA0 (io), 44 PA1 (io), 45 PA2 (io), 46 PA3 (HS) (io), 47 VDD_1 (power), 48 VSS_1 (power), 49 PA4 (HS) (io), 50 PA5 (HS) (io), 51 PA6 (HS)/SDAI (io), 52 PA7 (HS)/SCLI (io), 53 Reserved (in), 54 ~{RESET} (io), 55 EVD, 56 TLI (in), 57 VSS_2 (power), 58 OSC2 (out), 59 OSC1 (in), 60 VDD_2 (power), 61 PE0/TDO (io), 62 PE1/RDI (io), 63 PE2/CANTX (io), 64 PE3/CANRX (io)

## ST72521BAR6TC
designator U?
8-Bit MCU with 32k ROM, 1024b RAM, Five Timers, SPI, SCI, I²C and CAN Interfaces, 64-Pin TQFP, Automotive; Note: Pins 5-12, 25-27 and 43-46 are External Interrupt (EI) pins.; Note: Pin # 53 (Reserved) must be tied low.; Published: 26-May-2004; DatasheetDocument: rev1.1, Oct-2003; PackageDocument: Jun-2003; PackageReference: TQFP64; Publisher: Altium Limited; Code_JEDEC: MS-026; Code_IPC: SQFP10X10-64
footprint TQFP64 (QFP, Thin; 64 Leads; Body 10 x 10 mm; Pitch 0.5 mm)
pins: 1 PE4 (HS) (io), 2 PE5 (HS) (io), 3 PE6 (HS) (io), 4 PE7 (HS) (io), 5 PB0/PWM3 (io), 6 PB1/PWM2 (io), 7 PB2/PWM1 (io), 8 PB3/PWM0 (io), 9 PB4 (HS)/ARTCLK (io), 10 PB5/ARTIC1 (io), 11 PB6/ARTIC2 (io), 12 PB7 (io), 13 PD0/AIN0 (io), 14 PD1/AIN1 (io), 15 PD2/AIN2 (io), 16 PD3/AIN3 (io), 17 PD4/AIN4 (io), 18 PD5/AIN5 (io), 19 PD6/AIN6 (io), 20 PD7/AIN7 (io), 21 VAREF (in), 22 VSSA (power), 23 VDD_3 (power), 24 VSS_3 (power), 25 PF0/MCO/AIN8 (io), 26 PF1 (HS)/BEEP (io), 27 PF2 (HS) (io), 28 PF3/OCMP2_A/AIN9 (io), 29 PF4/OCMP1_A/AIN10 (io), 30 PF5/ICAP2_A/AIN11 (io), 31 PF6 (HS)/ICAP1_A (io), 32 PF7 (HS)/EXTCLK_A (io), 33 VDD_0 (power), 34 VSS_0 (power), 35 PC0/OCMP2_B/AIN12 (io), 36 PC1/OCMP1_B/AIN13 (io), 37 PC2 (HS)/ICAP2_B (io), 38 PC3 (HS)/ICAP1_B (io), 39 PC4/MISO/ICCDATA (io), 40 PC5/MOSI/AIN14 (io), 41 PC6/SCK/ICCCLK (io), 42 PC7/~{SS}/AIN15 (io), 43 PA0 (io), 44 PA1 (io), 45 PA2 (io), 46 PA3 (HS) (io), 47 VDD_1 (power), 48 VSS_1 (power), 49 PA4 (HS) (io), 50 PA5 (HS) (io), 51 PA6 (HS)/SDAI (io), 52 PA7 (HS)/SCLI (io), 53 Reserved (in), 54 ~{RESET} (io), 55 EVD, 56 TLI (in), 57 VSS_2 (power), 58 OSC2 (out), 59 OSC1 (in), 60 VDD_2 (power), 61 PE0/TDO (io), 62 PE1/RDI (io), 63 PE2/CANTX (io), 64 PE3/CANRX (io)

## ST72521BAR9T1
designator U?
8-Bit MCU with 60k ROM, 2048b RAM, Five Timers, SPI, SCI, I²C and CAN Interfaces, 64-Pin TQFP, Standard; Note: Pins 5-12, 25-27 and 43-46 are External Interrupt (EI) pins.; Note: Pin # 53 (Reserved) must be tied low.; Published: 26-May-2004; DatasheetDocument: rev1.1, Oct-2003; PackageDocument: Jun-2003; PackageReference: TQFP64; Publisher: Altium Limited; Code_JEDEC: MS-026; Code_IPC: SQFP10X10-64
footprint TQFP64 (QFP, Thin; 64 Leads; Body 10 x 10 mm; Pitch 0.5 mm)
pins: 1 PE4 (HS) (io), 2 PE5 (HS) (io), 3 PE6 (HS) (io), 4 PE7 (HS) (io), 5 PB0/PWM3 (io), 6 PB1/PWM2 (io), 7 PB2/PWM1 (io), 8 PB3/PWM0 (io), 9 PB4 (HS)/ARTCLK (io), 10 PB5/ARTIC1 (io), 11 PB6/ARTIC2 (io), 12 PB7 (io), 13 PD0/AIN0 (io), 14 PD1/AIN1 (io), 15 PD2/AIN2 (io), 16 PD3/AIN3 (io), 17 PD4/AIN4 (io), 18 PD5/AIN5 (io), 19 PD6/AIN6 (io), 20 PD7/AIN7 (io), 21 VAREF (in), 22 VSSA (power), 23 VDD_3 (power), 24 VSS_3 (power), 25 PF0/MCO/AIN8 (io), 26 PF1 (HS)/BEEP (io), 27 PF2 (HS) (io), 28 PF3/OCMP2_A/AIN9 (io), 29 PF4/OCMP1_A/AIN10 (io), 30 PF5/ICAP2_A/AIN11 (io), 31 PF6 (HS)/ICAP1_A (io), 32 PF7 (HS)/EXTCLK_A (io), 33 VDD_0 (power), 34 VSS_0 (power), 35 PC0/OCMP2_B/AIN12 (io), 36 PC1/OCMP1_B/AIN13 (io), 37 PC2 (HS)/ICAP2_B (io), 38 PC3 (HS)/ICAP1_B (io), 39 PC4/MISO/ICCDATA (io), 40 PC5/MOSI/AIN14 (io), 41 PC6/SCK/ICCCLK (io), 42 PC7/~{SS}/AIN15 (io), 43 PA0 (io), 44 PA1 (io), 45 PA2 (io), 46 PA3 (HS) (io), 47 VDD_1 (power), 48 VSS_1 (power), 49 PA4 (HS) (io), 50 PA5 (HS) (io), 51 PA6 (HS)/SDAI (io), 52 PA7 (HS)/SCLI (io), 53 Reserved (in), 54 ~{RESET} (io), 55 EVD, 56 TLI (in), 57 VSS_2 (power), 58 OSC2 (out), 59 OSC1 (in), 60 VDD_2 (power), 61 PE0/TDO (io), 62 PE1/RDI (io), 63 PE2/CANTX (io), 64 PE3/CANRX (io)

## ST72521BAR9T5
designator U?
8-Bit MCU with 60k ROM, 2048b RAM, Five Timers, SPI, SCI, I²C and CAN Interfaces, 64-Pin TQFP, Standard; Note: Pins 5-12, 25-27 and 43-46 are External Interrupt (EI) pins.; Note: Pin # 53 (Reserved) must be tied low.; Published: 26-May-2004; DatasheetDocument: rev1.1, Oct-2003; PackageDocument: Jun-2003; PackageReference: TQFP64; Publisher: Altium Limited; Code_JEDEC: MS-026; Code_IPC: SQFP10X10-64
footprint TQFP64 (QFP, Thin; 64 Leads; Body 10 x 10 mm; Pitch 0.5 mm)
pins: 1 PE4 (HS) (io), 2 PE5 (HS) (io), 3 PE6 (HS) (io), 4 PE7 (HS) (io), 5 PB0/PWM3 (io), 6 PB1/PWM2 (io), 7 PB2/PWM1 (io), 8 PB3/PWM0 (io), 9 PB4 (HS)/ARTCLK (io), 10 PB5/ARTIC1 (io), 11 PB6/ARTIC2 (io), 12 PB7 (io), 13 PD0/AIN0 (io), 14 PD1/AIN1 (io), 15 PD2/AIN2 (io), 16 PD3/AIN3 (io), 17 PD4/AIN4 (io), 18 PD5/AIN5 (io), 19 PD6/AIN6 (io), 20 PD7/AIN7 (io), 21 VAREF (in), 22 VSSA (power), 23 VDD_3 (power), 24 VSS_3 (power), 25 PF0/MCO/AIN8 (io), 26 PF1 (HS)/BEEP (io), 27 PF2 (HS) (io), 28 PF3/OCMP2_A/AIN9 (io), 29 PF4/OCMP1_A/AIN10 (io), 30 PF5/ICAP2_A/AIN11 (io), 31 PF6 (HS)/ICAP1_A (io), 32 PF7 (HS)/EXTCLK_A (io), 33 VDD_0 (power), 34 VSS_0 (power), 35 PC0/OCMP2_B/AIN12 (io), 36 PC1/OCMP1_B/AIN13 (io), 37 PC2 (HS)/ICAP2_B (io), 38 PC3 (HS)/ICAP1_B (io), 39 PC4/MISO/ICCDATA (io), 40 PC5/MOSI/AIN14 (io), 41 PC6/SCK/ICCCLK (io), 42 PC7/~{SS}/AIN15 (io), 43 PA0 (io), 44 PA1 (io), 45 PA2 (io), 46 PA3 (HS) (io), 47 VDD_1 (power), 48 VSS_1 (power), 49 PA4 (HS) (io), 50 PA5 (HS) (io), 51 PA6 (HS)/SDAI (io), 52 PA7 (HS)/SCLI (io), 53 Reserved (in), 54 ~{RESET} (io), 55 EVD, 56 TLI (in), 57 VSS_2 (power), 58 OSC2 (out), 59 OSC1 (in), 60 VDD_2 (power), 61 PE0/TDO (io), 62 PE1/RDI (io), 63 PE2/CANTX (io), 64 PE3/CANRX (io)

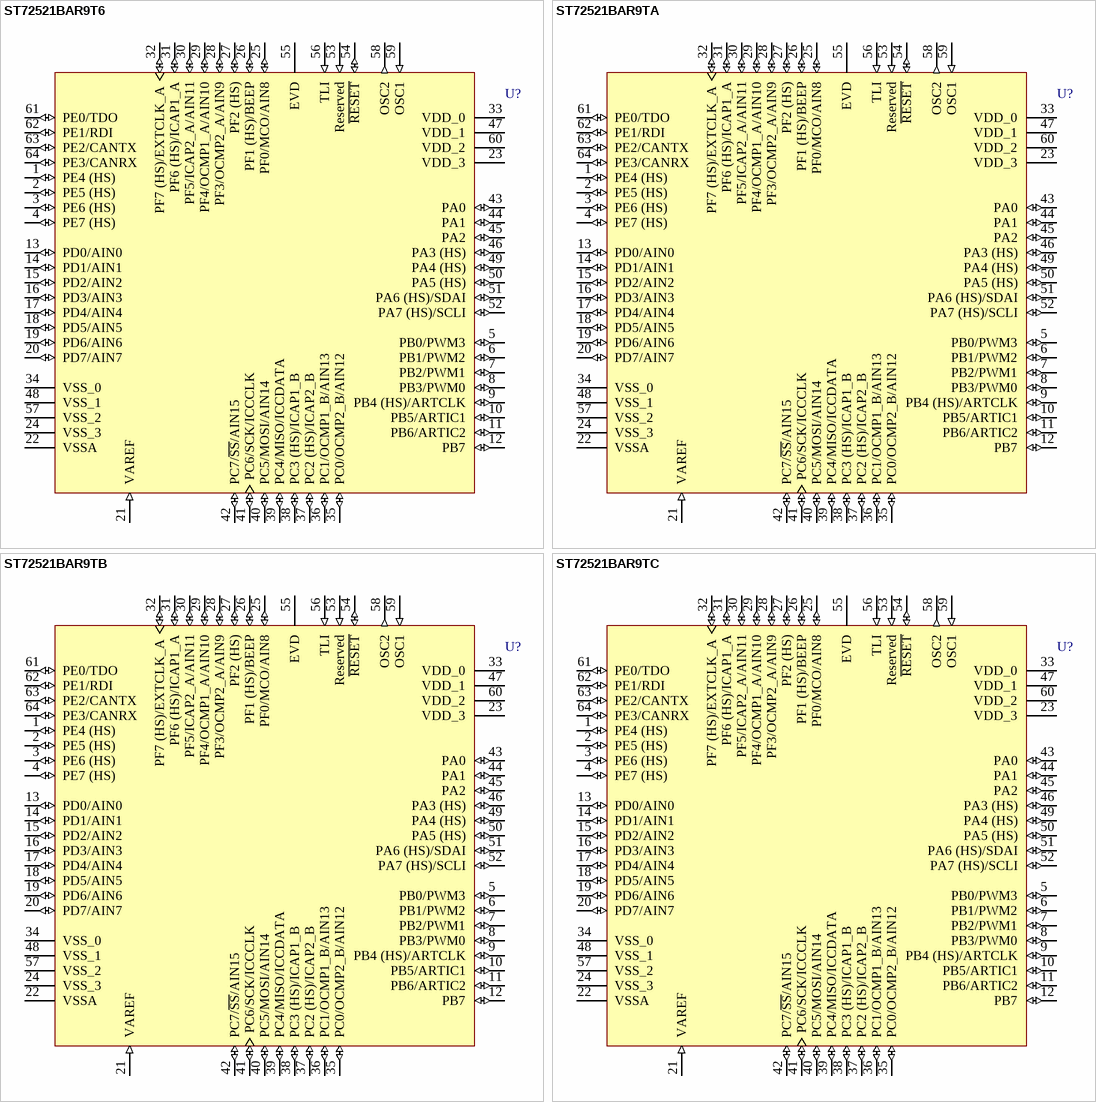
[diagram p150: symbols ST72521BAR9T6 to ST72521BAR9TC]

## ST72521BAR9T6
designator U?
8-Bit MCU with 60k ROM, 2048b RAM, Five Timers, SPI, SCI, I²C and CAN Interfaces, 64-Pin TQFP, Standard; Note: Pins 5-12, 25-27 and 43-46 are External Interrupt (EI) pins.; Note: Pin # 53 (Reserved) must be tied low.; Published: 26-May-2004; DatasheetDocument: rev1.1, Oct-2003; PackageDocument: Jun-2003; PackageReference: TQFP64; Publisher: Altium Limited; Code_JEDEC: MS-026; Code_IPC: SQFP10X10-64
footprint TQFP64 (QFP, Thin; 64 Leads; Body 10 x 10 mm; Pitch 0.5 mm)
pins: 1 PE4 (HS) (io), 2 PE5 (HS) (io), 3 PE6 (HS) (io), 4 PE7 (HS) (io), 5 PB0/PWM3 (io), 6 PB1/PWM2 (io), 7 PB2/PWM1 (io), 8 PB3/PWM0 (io), 9 PB4 (HS)/ARTCLK (io), 10 PB5/ARTIC1 (io), 11 PB6/ARTIC2 (io), 12 PB7 (io), 13 PD0/AIN0 (io), 14 PD1/AIN1 (io), 15 PD2/AIN2 (io), 16 PD3/AIN3 (io), 17 PD4/AIN4 (io), 18 PD5/AIN5 (io), 19 PD6/AIN6 (io), 20 PD7/AIN7 (io), 21 VAREF (in), 22 VSSA (power), 23 VDD_3 (power), 24 VSS_3 (power), 25 PF0/MCO/AIN8 (io), 26 PF1 (HS)/BEEP (io), 27 PF2 (HS) (io), 28 PF3/OCMP2_A/AIN9 (io), 29 PF4/OCMP1_A/AIN10 (io), 30 PF5/ICAP2_A/AIN11 (io), 31 PF6 (HS)/ICAP1_A (io), 32 PF7 (HS)/EXTCLK_A (io), 33 VDD_0 (power), 34 VSS_0 (power), 35 PC0/OCMP2_B/AIN12 (io), 36 PC1/OCMP1_B/AIN13 (io), 37 PC2 (HS)/ICAP2_B (io), 38 PC3 (HS)/ICAP1_B (io), 39 PC4/MISO/ICCDATA (io), 40 PC5/MOSI/AIN14 (io), 41 PC6/SCK/ICCCLK (io), 42 PC7/~{SS}/AIN15 (io), 43 PA0 (io), 44 PA1 (io), 45 PA2 (io), 46 PA3 (HS) (io), 47 VDD_1 (power), 48 VSS_1 (power), 49 PA4 (HS) (io), 50 PA5 (HS) (io), 51 PA6 (HS)/SDAI (io), 52 PA7 (HS)/SCLI (io), 53 Reserved (in), 54 ~{RESET} (io), 55 EVD, 56 TLI (in), 57 VSS_2 (power), 58 OSC2 (out), 59 OSC1 (in), 60 VDD_2 (power), 61 PE0/TDO (io), 62 PE1/RDI (io), 63 PE2/CANTX (io), 64 PE3/CANRX (io)

## ST72521BAR9TA
designator U?
8-Bit MCU with 60k ROM, 2048b RAM, Five Timers, SPI, SCI, I²C and CAN Interfaces, 64-Pin TQFP, Automotive; Note: Pins 5-12, 25-27 and 43-46 are External Interrupt (EI) pins.; Note: Pin # 53 (Reserved) must be tied low.; Published: 26-May-2004; DatasheetDocument: rev1.1, Oct-2003; PackageDocument: Jun-2003; PackageReference: TQFP64; Publisher: Altium Limited; Code_JEDEC: MS-026; Code_IPC: SQFP10X10-64
footprint TQFP64 (QFP, Thin; 64 Leads; Body 10 x 10 mm; Pitch 0.5 mm)
pins: 1 PE4 (HS) (io), 2 PE5 (HS) (io), 3 PE6 (HS) (io), 4 PE7 (HS) (io), 5 PB0/PWM3 (io), 6 PB1/PWM2 (io), 7 PB2/PWM1 (io), 8 PB3/PWM0 (io), 9 PB4 (HS)/ARTCLK (io), 10 PB5/ARTIC1 (io), 11 PB6/ARTIC2 (io), 12 PB7 (io), 13 PD0/AIN0 (io), 14 PD1/AIN1 (io), 15 PD2/AIN2 (io), 16 PD3/AIN3 (io), 17 PD4/AIN4 (io), 18 PD5/AIN5 (io), 19 PD6/AIN6 (io), 20 PD7/AIN7 (io), 21 VAREF (in), 22 VSSA (power), 23 VDD_3 (power), 24 VSS_3 (power), 25 PF0/MCO/AIN8 (io), 26 PF1 (HS)/BEEP (io), 27 PF2 (HS) (io), 28 PF3/OCMP2_A/AIN9 (io), 29 PF4/OCMP1_A/AIN10 (io), 30 PF5/ICAP2_A/AIN11 (io), 31 PF6 (HS)/ICAP1_A (io), 32 PF7 (HS)/EXTCLK_A (io), 33 VDD_0 (power), 34 VSS_0 (power), 35 PC0/OCMP2_B/AIN12 (io), 36 PC1/OCMP1_B/AIN13 (io), 37 PC2 (HS)/ICAP2_B (io), 38 PC3 (HS)/ICAP1_B (io), 39 PC4/MISO/ICCDATA (io), 40 PC5/MOSI/AIN14 (io), 41 PC6/SCK/ICCCLK (io), 42 PC7/~{SS}/AIN15 (io), 43 PA0 (io), 44 PA1 (io), 45 PA2 (io), 46 PA3 (HS) (io), 47 VDD_1 (power), 48 VSS_1 (power), 49 PA4 (HS) (io), 50 PA5 (HS) (io), 51 PA6 (HS)/SDAI (io), 52 PA7 (HS)/SCLI (io), 53 Reserved (in), 54 ~{RESET} (io), 55 EVD, 56 TLI (in), 57 VSS_2 (power), 58 OSC2 (out), 59 OSC1 (in), 60 VDD_2 (power), 61 PE0/TDO (io), 62 PE1/RDI (io), 63 PE2/CANTX (io), 64 PE3/CANRX (io)